# Altium integrated library WCH.IntLib: 139 symbols (part 1 of 3)
Pins are listed as number, name and electrical type; pins without a type are passive.

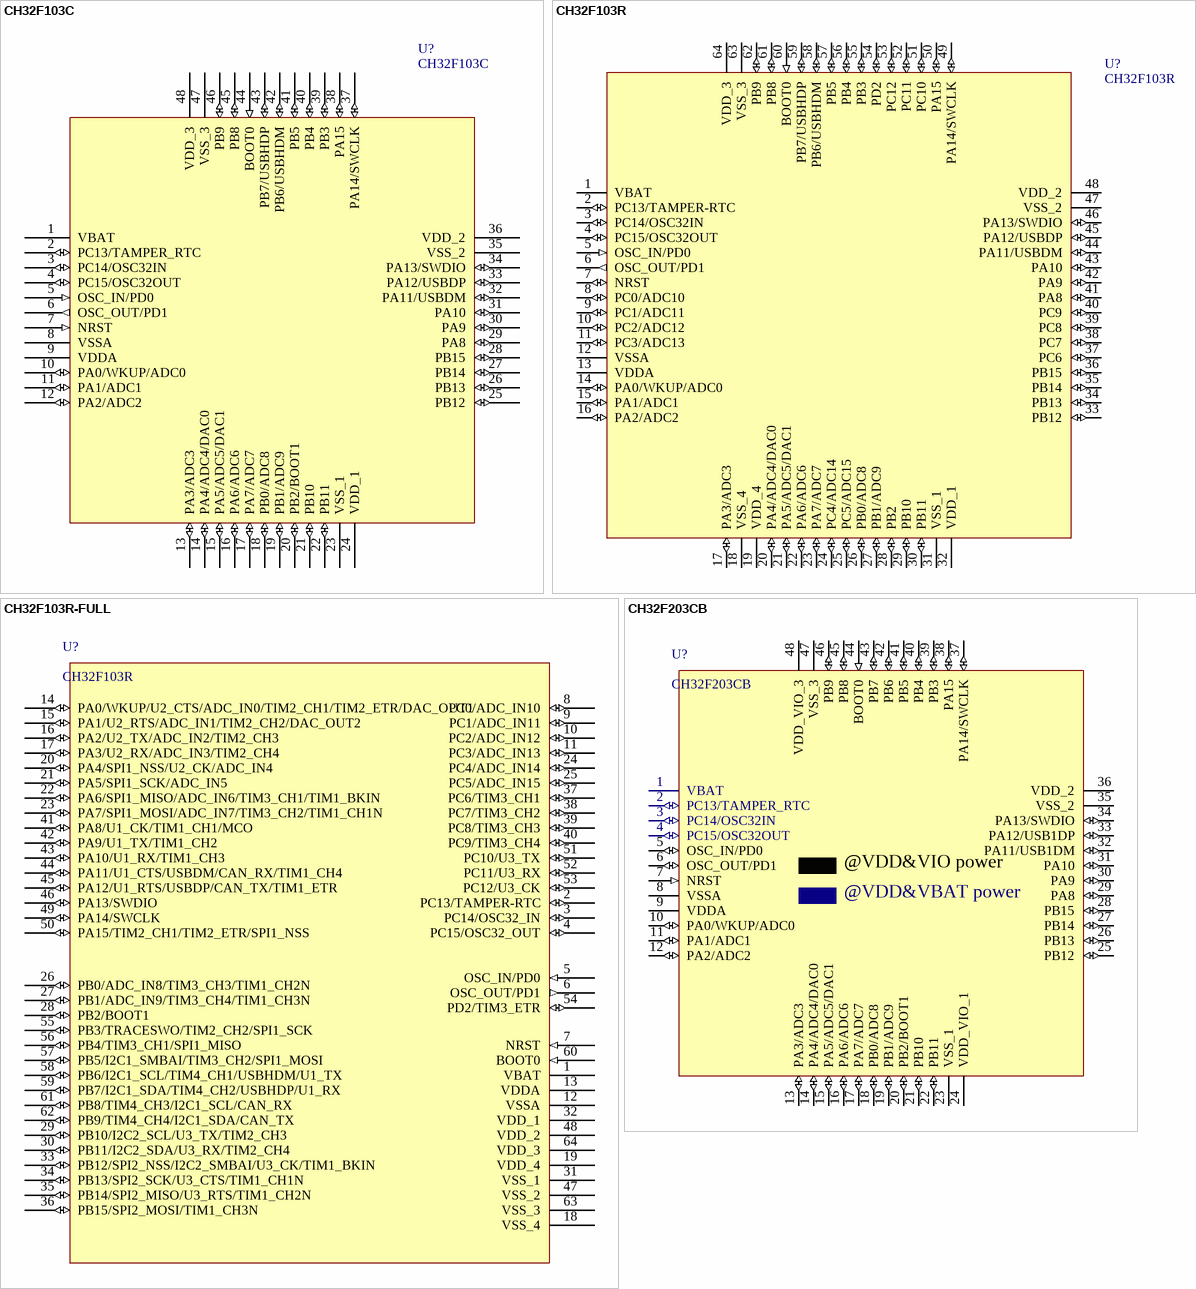
[diagram p0: symbols CH32F103C to CH32F203CB]

## CH32F103C
designator U?
ARM M3 MCU with USB device & USB host & ADC & 12bit DAC & Touch Key & CAN; CPU内核: Cortex-M3; CPU最大主频: 72MHz; I/O数量: 37; 制造商: WCH(南京沁恒); 子类别: Cortex通用; 存储器类型: Flash; 存储容量: 32/64KB; 封装: LQFP48/QFN48X7; 工作电压: 3.3V/5.0V; 类别: 32位通用
footprint LQFP48
footprint QFN48_7X7 (Footprint not found)
pins: 1 VBAT (power), 2 PC13/TAMPER_RTC (io), 3 PC14/OSC32IN (io), 4 PC15/OSC32OUT (io), 5 OSC_IN/PD0 (in), 6 OSC_OUT/PD1 (out), 7 NRST (in), 8 VSSA (power), 9 VDDA (power), 10 PA0/WKUP/ADC0 (io), 11 PA1/ADC1 (io), 12 PA2/ADC2 (io), 13 PA3/ADC3 (io), 14 PA4/ADC4/DAC0 (io), 15 PA5/ADC5/DAC1 (io), 16 PA6/ADC6 (io), 17 PA7/ADC7 (io), 18 PB0/ADC8 (io), 19 PB1/ADC9 (io), 20 PB2/BOOT1 (io), 21 PB10 (io), 22 PB11 (io), 23 VSS_1 (power), 24 VDD_1 (power), 25 PB12 (io), 26 PB13 (io), 27 PB14 (io), 28 PB15 (io), 29 PA8 (io), 30 PA9 (io), 31 PA10 (io), 32 PA11/USBDM (io), 33 PA12/USBDP (io), 34 PA13/SWDIO (io), 35 VSS_2 (power), 36 VDD_2 (power), 37 PA14/SWCLK (io), 38 PA15 (io), 39 PB3 (io), 40 PB4 (io), 41 PB5 (io), 42 PB6/USBHDM (io), 43 PB7/USBHDP (io), 44 BOOT0 (in), 45 PB8 (io), 46 PB9 (io), 47 VSS_3 (power), 48 VDD_3 (power)

## CH32F103R
designator U?
ARM M3 MCU with USB device & USB host & ADC & 12bit DAC & Touch Key & CAN; CPU内核: Cortex-M3; CPU最大主频: 72MHz; I/O数量: 51; 制造商: WCH(南京沁恒); 子类别: Cortex通用; 存储器类型: Flash; 存储容量: 64KB; 封装: LQFP64M; 工作电压: 3.3V/5.0V; 类别: 32位通用
footprint LQFP64M_10X10
pins: 1 VBAT (power), 2 PC13/TAMPER-RTC (io), 3 PC14/OSC32IN (io), 4 PC15/OSC32OUT (io), 5 OSC_IN/PD0 (in), 6 OSC_OUT/PD1 (out), 7 NRST (io), 8 PC0/ADC10 (io), 9 PC1/ADC11 (io), 10 PC2/ADC12 (io), 11 PC3/ADC13 (io), 12 VSSA (power), 13 VDDA (power), 14 PA0/WKUP/ADC0 (io), 15 PA1/ADC1 (io), 16 PA2/ADC2 (io), 17 PA3/ADC3 (io), 18 VSS_4 (power), 19 VDD_4 (power), 20 PA4/ADC4/DAC0 (io), 21 PA5/ADC5/DAC1 (io), 22 PA6/ADC6 (io), 23 PA7/ADC7 (io), 24 PC4/ADC14 (io), 25 PC5/ADC15 (io), 26 PB0/ADC8 (io), 27 PB1/ADC9 (io), 28 PB2 (io), 29 PB10 (io), 30 PB11 (io), 31 VSS_1 (power), 32 VDD_1 (power), 33 PB12 (io), 34 PB13 (io), 35 PB14 (io), 36 PB15 (io), 37 PC6 (io), 38 PC7 (io), 39 PC8 (io), 40 PC9 (io), 41 PA8 (io), 42 PA9 (io), 43 PA10 (io), 44 PA11/USBDM (io), 45 PA12/USBDP (io), 46 PA13/SWDIO (io), 47 VSS_2 (power), 48 VDD_2 (power), 49 PA14/SWCLK (io), 50 PA15 (io), 51 PC10 (io), 52 PC11 (io), 53 PC12 (io), 54 PD2 (io), 55 PB3 (io), 56 PB4 (io), 57 PB5 (io), 58 PB6/USBHDM (io), 59 PB7/USBHDP (io), 60 BOOT0 (in), 61 PB8 (io), 62 PB9 (io), 63 VSS_3 (power), 64 VDD_3 (power)

## CH32F103R-FULL
designator U?, comment CH32F103R
ARM M3 MCU with USB device & USB host & ADC & 12bit DAC & Touch Key & CAN; CPU内核: Cortex-M3; CPU最大主频: 72MHz; I/O数量: 51; 制造商: WCH(南京沁恒); 子类别: Cortex通用; 存储器类型: Flash; 存储容量: 64KB; 封装: LQFP64M; 工作电压: 3.3V/5.0V; 类别: 32位通用
footprint LQFP64M_10X10 (Footprint not found)
pins: 1 VBAT (power), 2 PC13/TAMPER-RTC (io), 3 PC14/OSC32_IN (io), 4 PC15/OSC32_OUT (io), 5 OSC_IN/PD0 (in), 6 OSC_OUT/PD1 (out), 7 NRST (in), 8 PC0/ADC_IN10 (io), 9 PC1/ADC_IN11 (io), 10 PC2/ADC_IN12 (io), 11 PC3/ADC_IN13 (io), 12 VSSA (power), 13 VDDA (power), 14 PA0/WKUP/U2_CTS/ADC_IN0/TIM2_CH1/TIM2_ETR/DAC_OUT1 (io), 15 PA1/U2_RTS/ADC_IN1/TIM2_CH2/DAC_OUT2 (io), 16 PA2/U2_TX/ADC_IN2/TIM2_CH3 (io), 17 PA3/U2_RX/ADC_IN3/TIM2_CH4 (io), 18 VSS_4 (power), 19 VDD_4 (power), 20 PA4/SPI1_NSS/U2_CK/ADC_IN4 (io), 21 PA5/SPI1_SCK/ADC_IN5 (io), 22 PA6/SPI1_MISO/ADC_IN6/TIM3_CH1/TIM1_BKIN (io), 23 PA7/SPI1_MOSI/ADC_IN7/TIM3_CH2/TIM1_CH1N (io), 24 PC4/ADC_IN14 (io), 25 PC5/ADC_IN15 (io), 26 PB0/ADC_IN8/TIM3_CH3/TIM1_CH2N (io), 27 PB1/ADC_IN9/TIM3_CH4/TIM1_CH3N (io), 28 PB2/BOOT1 (io), 29 PB10/I2C2_SCL/U3_TX/TIM2_CH3 (io), 30 PB11/I2C2_SDA/U3_RX/TIM2_CH4 (io), 31 VSS_1 (power), 32 VDD_1 (power), 33 PB12/SPI2_NSS/I2C2_SMBAI/U3_CK/TIM1_BKIN (io), 34 PB13/SPI2_SCK/U3_CTS/TIM1_CH1N  (io), 35 PB14/SPI2_MISO/U3_RTS/TIM1_CH2N (io), 36 PB15/SPI2_MOSI/TIM1_CH3N (io), 37 PC6/TIM3_CH1 (io), 38 PC7/TIM3_CH2 (io), 39 PC8/TIM3_CH3 (io), 40 PC9/TIM3_CH4 (io), 41 PA8/U1_CK/TIM1_CH1/MCO (io), 42 PA9/U1_TX/TIM1_CH2 (io), 43 PA10/U1_RX/TIM1_CH3 (io), 44 PA11/U1_CTS/USBDM/CAN_RX/TIM1_CH4 (io), 45 PA12/U1_RTS/USBDP/CAN_TX/TIM1_ETR (io), 46 PA13/SWDIO (io), 47 VSS_2 (power), 48 VDD_2 (power), 49 PA14/SWCLK (io), 50 PA15/TIM2_CH1/TIM2_ETR/SPI1_NSS (io), 51 PC10/U3_TX (io), 52 PC11/U3_RX (io), 53 PC12/U3_CK (io), 54 PD2/TIM3_ETR (io), 55 PB3/TRACESWO/TIM2_CH2/SPI1_SCK (io), 56 PB4/TIM3_CH1/SPI1_MISO (io), 57 PB5/I2C1_SMBAI/TIM3_CH2/SPI1_MOSI (io), 58 PB6/I2C1_SCL/TIM4_CH1/USBHDM/U1_TX (io), 59 PB7/I2C1_SDA/TIM4_CH2/USBHDP/U1_RX (io), 60 BOOT0 (in), 61 PB8/TIM4_CH3/I2C1_SCL/CAN_RX (io), 62 PB9/TIM4_CH4/I2C1_SDA/CAN_TX (io), 63 VSS_3 (power), 64 VDD_3 (power)

## CH32F203CB
designator U?
ARM M3 HD-MCU, 144MHz, 8*UART, 10*Timer, 4*OPA; CPU内核: Cortex-M3; I/O数量: 37; 制造商: WCH(南京沁恒); 子类别: Cortex通用; 存储器类型: Flash; 存储容量: 128KB; 封装: LQFP48; 工作电压: 2.5V/3.3V; 类别: 32位通用; CPU最大主频: 144MHz
footprint LQFP48
pins: 1 VBAT (power), 2 PC13/TAMPER_RTC (io), 3 PC14/OSC32IN (io), 4 PC15/OSC32OUT (io), 5 OSC_IN/PD0 (io), 6 OSC_OUT/PD1 (io), 7 NRST (in), 8 VSSA (power), 9 VDDA (power), 10 PA0/WKUP/ADC0 (io), 11 PA1/ADC1 (io), 12 PA2/ADC2 (io), 13 PA3/ADC3 (io), 14 PA4/ADC4/DAC0 (io), 15 PA5/ADC5/DAC1 (io), 16 PA6/ADC6 (io), 17 PA7/ADC7 (io), 18 PB0/ADC8 (io), 19 PB1/ADC9 (io), 20 PB2/BOOT1 (io), 21 PB10 (io), 22 PB11 (io), 23 VSS_1 (power), 24 VDD_VIO_1 (power), 25 PB12 (io), 26 PB13 (io), 27 PB14 (io), 28 PB15 (io), 29 PA8 (io), 30 PA9 (io), 31 PA10 (io), 32 PA11/USB1DM (io), 33 PA12/USB1DP (io), 34 PA13/SWDIO (io), 35 VSS_2 (power), 36 VDD_2 (power), 37 PA14/SWCLK (io), 38 PA15 (io), 39 PB3 (io), 40 PB4 (io), 41 PB5 (io), 42 PB6 (io), 43 PB7 (io), 44 BOOT0 (in), 45 PB8 (io), 46 PB9 (io), 47 VSS_3 (power), 48 VDD_VIO_3 (power)
text: @VDD&VIO power; @VDD&VBAT power

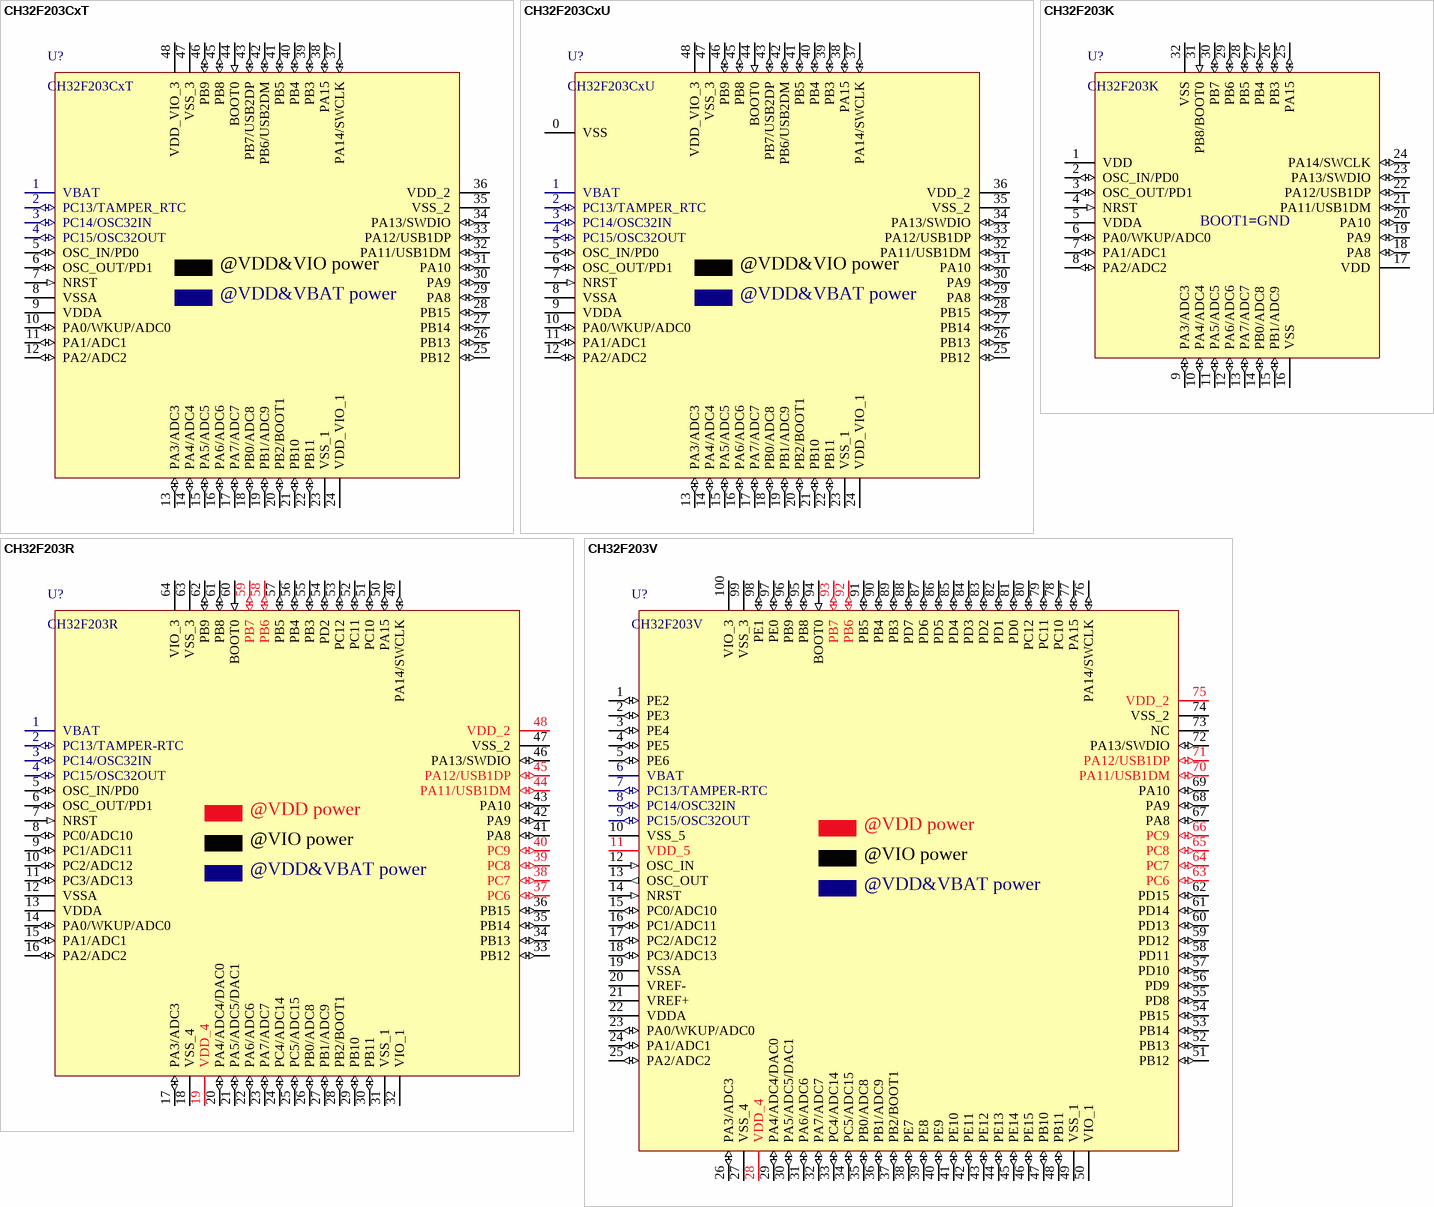
[diagram p1: symbols CH32F203CxT to CH32F203V]

## CH32F203CxT
designator U?
ARM M3 LMD-MCU, 144MHz, 2*USB FS, CAN; CPU内核: Cortex-M3; I/O数量: 37; 制造商: WCH(南京沁恒); 子类别: Cortex通用; 存储器类型: Flash; 存储容量: 32KB/64KB; 封装: LQFP48; 工作电压: 2.5V/3.3V; 类别: 32位通用; CPU最大主频: 144MHz
footprint LQFP48
pins: 1 VBAT (power), 2 PC13/TAMPER_RTC (io), 3 PC14/OSC32IN (io), 4 PC15/OSC32OUT (io), 5 OSC_IN/PD0 (io), 6 OSC_OUT/PD1 (io), 7 NRST (in), 8 VSSA (power), 9 VDDA (power), 10 PA0/WKUP/ADC0 (io), 11 PA1/ADC1 (io), 12 PA2/ADC2 (io), 13 PA3/ADC3 (io), 14 PA4/ADC4 (io), 15 PA5/ADC5 (io), 16 PA6/ADC6 (io), 17 PA7/ADC7 (io), 18 PB0/ADC8 (io), 19 PB1/ADC9 (io), 20 PB2/BOOT1 (io), 21 PB10 (io), 22 PB11 (io), 23 VSS_1 (power), 24 VDD_VIO_1 (power), 25 PB12 (io), 26 PB13 (io), 27 PB14 (io), 28 PB15 (io), 29 PA8 (io), 30 PA9 (io), 31 PA10 (io), 32 PA11/USB1DM (io), 33 PA12/USB1DP (io), 34 PA13/SWDIO (io), 35 VSS_2 (power), 36 VDD_2 (power), 37 PA14/SWCLK (io), 38 PA15 (io), 39 PB3 (io), 40 PB4 (io), 41 PB5 (io), 42 PB6/USB2DM (io), 43 PB7/USB2DP (io), 44 BOOT0 (in), 45 PB8 (io), 46 PB9 (io), 47 VSS_3 (power), 48 VDD_VIO_3 (power)
text: @VDD&VIO power; @VDD&VBAT power

## CH32F203CxU
designator U?
ARM M3 LMD-MCU, 144MHz, 2*USB FS, CAN; CPU内核: Cortex-M3; I/O数量: 37; 制造商: WCH(南京沁恒); 子类别: Cortex通用; 存储器类型: Flash; 存储容量: 64KB; 封装: LQFP48X7; 工作电压: 2.5V/3.3V; 类别: 32位通用; CPU最大主频: 144MHz
footprint QFN48_7X7 (Footprint not found)
pins: 0 VSS (power), 1 VBAT (power), 2 PC13/TAMPER_RTC (io), 3 PC14/OSC32IN (io), 4 PC15/OSC32OUT (io), 5 OSC_IN/PD0 (io), 6 OSC_OUT/PD1 (io), 7 NRST (in), 8 VSSA (power), 9 VDDA (power), 10 PA0/WKUP/ADC0 (io), 11 PA1/ADC1 (io), 12 PA2/ADC2 (io), 13 PA3/ADC3 (io), 14 PA4/ADC4 (io), 15 PA5/ADC5 (io), 16 PA6/ADC6 (io), 17 PA7/ADC7 (io), 18 PB0/ADC8 (io), 19 PB1/ADC9 (io), 20 PB2/BOOT1 (io), 21 PB10 (io), 22 PB11 (io), 23 VSS_1 (power), 24 VDD_VIO_1 (power), 25 PB12 (io), 26 PB13 (io), 27 PB14 (io), 28 PB15 (io), 29 PA8 (io), 30 PA9 (io), 31 PA10 (io), 32 PA11/USB1DM (io), 33 PA12/USB1DP (io), 34 PA13/SWDIO (io), 35 VSS_2 (power), 36 VDD_2 (power), 37 PA14/SWCLK (io), 38 PA15 (io), 39 PB3 (io), 40 PB4 (io), 41 PB5 (io), 42 PB6/USB2DM (io), 43 PB7/USB2DP (io), 44 BOOT0 (in), 45 PB8 (io), 46 PB9 (io), 47 VSS_3 (power), 48 VDD_VIO_3 (power)
text: @VDD&VIO power; @VDD&VBAT power

## CH32F203K
designator U?
ARM M3 LMD-MCU, 144MHz, USB FS, CAN; CPU内核: Cortex-M3; I/O数量: 26; 制造商: WCH(南京沁恒); 子类别: Cortex通用; 存储器类型: Flash; 存储容量: 64KB; 封装: LQFP32; 工作电压: 2.5V/3.3V; 类别: 32位通用; CPU最大主频: 144MHz
footprint LQFP32
pins: 1 VDD (power), 2 OSC_IN/PD0 (io), 3 OSC_OUT/PD1 (io), 4 NRST (in), 5 VDDA (power), 6 PA0/WKUP/ADC0 (io), 7 PA1/ADC1 (io), 8 PA2/ADC2 (io), 9 PA3/ADC3 (io), 10 PA4/ADC4 (io), 11 PA5/ADC5 (io), 12 PA6/ADC6 (io), 13 PA7/ADC7 (io), 14 PB0/ADC8 (io), 15 PB1/ADC9 (io), 16 VSS (power), 17 VDD (power), 18 PA8 (io), 19 PA9 (io), 20 PA10 (io), 21 PA11/USB1DM (io), 22 PA12/USB1DP (io), 23 PA13/SWDIO (io), 24 PA14/SWCLK (io), 25 PA15 (io), 26 PB3 (io), 27 PB4 (io), 28 PB5 (io), 29 PB6 (io), 30 PB7 (io), 31 PB8/BOOT0 (in), 32 VSS (power)
text: BOOT1=GND

## CH32F203R
designator U?
ARM M3 HD-MCU, 144MHz, 8*UART, 10*Timer, 4*OPA; CPU内核: Cortex-M3; I/O数量: 51; 制造商: WCH(南京沁恒); 子类别: Cortex通用; 存储器类型: Flash; 存储容量: 128KB/256KB; 封装: LQFP64M; 工作电压: 2.5V/3.3V; 类别: 32位通用; CPU最大主频: 144MHz
footprint LQFP64M_10X10
pins: 1 VBAT (power), 2 PC13/TAMPER-RTC (io), 3 PC14/OSC32IN (io), 4 PC15/OSC32OUT (io), 5 OSC_IN/PD0 (io), 6 OSC_OUT/PD1 (io), 7 NRST (in), 8 PC0/ADC10 (io), 9 PC1/ADC11 (io), 10 PC2/ADC12 (io), 11 PC3/ADC13 (io), 12 VSSA (power), 13 VDDA (power), 14 PA0/WKUP/ADC0 (io), 15 PA1/ADC1 (io), 16 PA2/ADC2 (io), 17 PA3/ADC3 (io), 18 VSS_4 (power), 19 VDD_4 (power), 20 PA4/ADC4/DAC0 (io), 21 PA5/ADC5/DAC1 (io), 22 PA6/ADC6 (io), 23 PA7/ADC7 (io), 24 PC4/ADC14 (io), 25 PC5/ADC15 (io), 26 PB0/ADC8 (io), 27 PB1/ADC9 (io), 28 PB2/BOOT1 (io), 29 PB10 (io), 30 PB11 (io), 31 VSS_1 (power), 32 VIO_1 (power), 33 PB12 (io), 34 PB13 (io), 35 PB14 (io), 36 PB15 (io), 37 PC6 (io), 38 PC7 (io), 39 PC8 (io), 40 PC9 (io), 41 PA8 (io), 42 PA9 (io), 43 PA10 (io), 44 PA11/USB1DM (io), 45 PA12/USB1DP (io), 46 PA13/SWDIO (io), 47 VSS_2 (power), 48 VDD_2 (power), 49 PA14/SWCLK (io), 50 PA15 (io), 51 PC10 (io), 52 PC11 (io), 53 PC12 (io), 54 PD2 (io), 55 PB3 (io), 56 PB4 (io), 57 PB5 (io), 58 PB6 (io), 59 PB7 (io), 60 BOOT0 (in), 61 PB8 (io), 62 PB9 (io), 63 VSS_3 (power), 64 VIO_3 (power)
text: @VDD power; @VIO power; @VDD&VBAT power

## CH32F203V
designator U?
ARM M3 HD-MCU, 144MHz, 8*UART, 10*Timer, 4*OPA; CPU内核: Cortex-M3; I/O数量: 80; 制造商: WCH(南京沁恒); 子类别: Cortex通用; 存储器类型: Flash; 存储容量: 256KB; 封装: LQFP100; 工作电压: 2.5V/3.3V; 类别: 32位通用; CPU最大主频: 144MHz
footprint LQFP100
pins: 1 PE2 (io), 2 PE3 (io), 3 PE4 (io), 4 PE5 (io), 5 PE6 (io), 6 VBAT (power), 7 PC13/TAMPER-RTC (io), 8 PC14/OSC32IN (io), 9 PC15/OSC32OUT (io), 10 VSS_5 (power), 11 VDD_5 (power), 12 OSC_IN (in), 13 OSC_OUT (out), 14 NRST (in), 15 PC0/ADC10 (io), 16 PC1/ADC11 (io), 17 PC2/ADC12 (io), 18 PC3/ADC13 (io), 19 VSSA (power), 20 VREF- (power), 21 VREF+ (power), 22 VDDA (power), 23 PA0/WKUP/ADC0 (io), 24 PA1/ADC1 (io), 25 PA2/ADC2 (io), 26 PA3/ADC3 (io), 27 VSS_4 (power), 28 VDD_4 (power), 29 PA4/ADC4/DAC0 (io), 30 PA5/ADC5/DAC1 (io), 31 PA6/ADC6 (io), 32 PA7/ADC7 (io), 33 PC4/ADC14 (io), 34 PC5/ADC15 (io), 35 PB0/ADC8 (io), 36 PB1/ADC9 (io), 37 PB2/BOOT1 (io), 38 PE7 (io), 39 PE8 (io), 40 PE9 (io), 41 PE10 (io), 42 PE11 (io), 43 PE12 (io), 44 PE13 (io), 45 PE14 (io), 46 PE15 (io), 47 PB10 (io), 48 PB11 (io), 49 VSS_1 (power), 50 VIO_1 (power), 51 PB12 (io), 52 PB13 (io), 53 PB14 (io), 54 PB15 (io), 55 PD8 (io), 56 PD9 (io), 57 PD10 (io), 58 PD11 (io), 59 PD12 (io), 60 PD13 (io), 61 PD14 (io), 62 PD15 (io), 63 PC6 (io), 64 PC7 (io), 65 PC8 (io), 66 PC9 (io), 67 PA8 (io), 68 PA9 (io), 69 PA10 (io), 70 PA11/USB1DM (io), 71 PA12/USB1DP (io), 72 PA13/SWDIO (io), 73 NC (hiz), 74 VSS_2 (power), 75 VDD_2 (power), 76 PA14/SWCLK (io), 77 PA15 (io), 78 PC10 (io), 79 PC11 (io), 80 PC12 (io), 81 PD0 (io), 82 PD1 (io), 83 PD2 (io), 84 PD3 (io), 85 PD4 (io), 86 PD5 (io), 87 PD6 (io), 88 PD7 (io), 89 PB3 (io), 90 PB4 (io), 91 PB5 (io), 92 PB6 (io), 93 PB7 (io), 94 BOOT0 (in), 95 PB8 (io), 96 PB9 (io), 97 PE0 (io), 98 PE1 (io), 99 VSS_3 (power), 100 VIO_3 (power)
text: @VDD power; @VIO power; @VDD&VBAT power

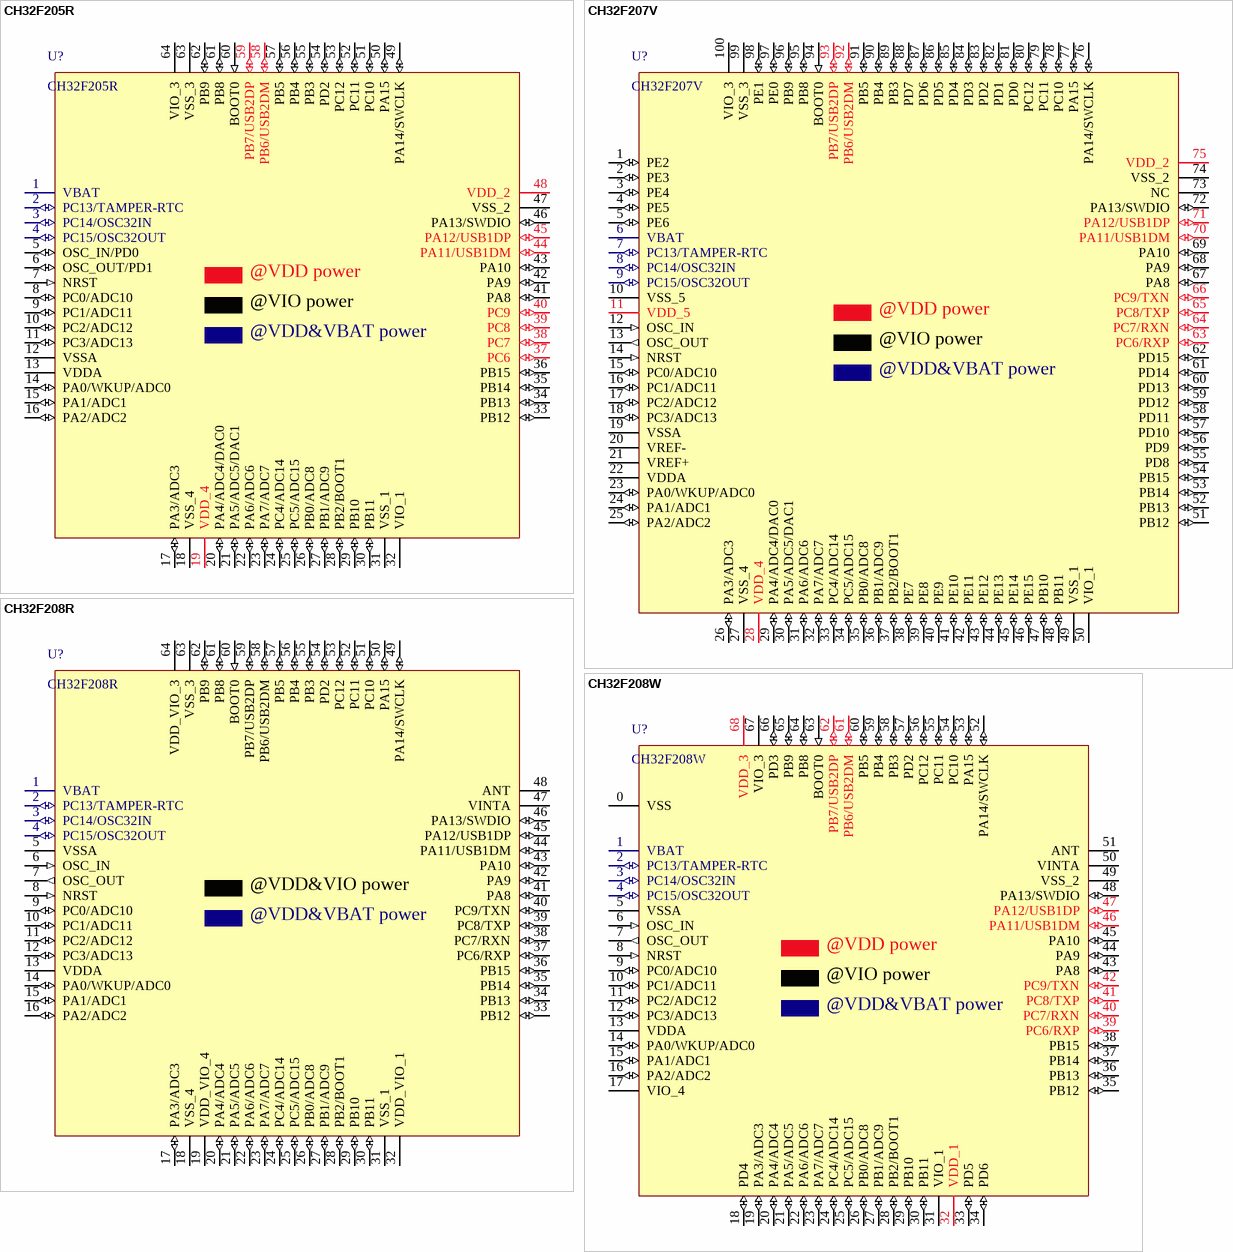
[diagram p2: symbols CH32F205R to CH32F208W]

## CH32F205R
designator U?
ARM M3 HD-MCU, 144MHz, USB_480M, USB OTG, 2*CAN, 4*OPA; CPU内核: Cortex-M3; I/O数量: 51; 制造商: WCH(南京沁恒); 子类别: Cortex通用; 存储器类型: Flash; 存储容量: 128KB; 封装: LQFP64M; 工作电压: 2.5V/3.3V; 类别: 32位通用; CPU最大主频: 144MHz
footprint LQFP64M_10X10
pins: 1 VBAT (power), 2 PC13/TAMPER-RTC (io), 3 PC14/OSC32IN (io), 4 PC15/OSC32OUT (io), 5 OSC_IN/PD0 (io), 6 OSC_OUT/PD1 (io), 7 NRST (in), 8 PC0/ADC10 (io), 9 PC1/ADC11 (io), 10 PC2/ADC12 (io), 11 PC3/ADC13 (io), 12 VSSA (power), 13 VDDA (power), 14 PA0/WKUP/ADC0 (io), 15 PA1/ADC1 (io), 16 PA2/ADC2 (io), 17 PA3/ADC3 (io), 18 VSS_4 (power), 19 VDD_4 (power), 20 PA4/ADC4/DAC0 (io), 21 PA5/ADC5/DAC1 (io), 22 PA6/ADC6 (io), 23 PA7/ADC7 (io), 24 PC4/ADC14 (io), 25 PC5/ADC15 (io), 26 PB0/ADC8 (io), 27 PB1/ADC9 (io), 28 PB2/BOOT1 (io), 29 PB10 (io), 30 PB11 (io), 31 VSS_1 (power), 32 VIO_1 (power), 33 PB12 (io), 34 PB13 (io), 35 PB14 (io), 36 PB15 (io), 37 PC6 (io), 38 PC7 (io), 39 PC8 (io), 40 PC9 (io), 41 PA8 (io), 42 PA9 (io), 43 PA10 (io), 44 PA11/USB1DM (io), 45 PA12/USB1DP (io), 46 PA13/SWDIO (io), 47 VSS_2 (power), 48 VDD_2 (power), 49 PA14/SWCLK (io), 50 PA15 (io), 51 PC10 (io), 52 PC11 (io), 53 PC12 (io), 54 PD2 (io), 55 PB3 (io), 56 PB4 (io), 57 PB5 (io), 58 PB6/USB2DM (io), 59 PB7/USB2DP (io), 60 BOOT0 (in), 61 PB8 (io), 62 PB9 (io), 63 VSS_3 (power), 64 VIO_3 (power)
text: @VDD power; @VIO power; @VDD&VBAT power

## CH32F207V
designator U?
ARM M3 HD-MCU, 144MHz, USB_480M, USB OTG, 1000M Ethernet MAC, 2*CAN; CPU内核: Cortex-M3; I/O数量: 80; 制造商: WCH(南京沁恒); 子类别: Cortex以太网; 存储器类型: Flash; 存储容量: 256KB; 封装: LQFP100; 工作电压: 2.5V/3.3V; 类别: 以太网芯片; CPU最大主频: 144MHz
footprint LQFP100
pins: 1 PE2 (io), 2 PE3 (io), 3 PE4 (io), 4 PE5 (io), 5 PE6 (io), 6 VBAT (power), 7 PC13/TAMPER-RTC (io), 8 PC14/OSC32IN (io), 9 PC15/OSC32OUT (io), 10 VSS_5 (power), 11 VDD_5 (power), 12 OSC_IN (in), 13 OSC_OUT (out), 14 NRST (in), 15 PC0/ADC10 (io), 16 PC1/ADC11 (io), 17 PC2/ADC12 (io), 18 PC3/ADC13 (io), 19 VSSA (power), 20 VREF- (power), 21 VREF+ (power), 22 VDDA (power), 23 PA0/WKUP/ADC0 (io), 24 PA1/ADC1 (io), 25 PA2/ADC2 (io), 26 PA3/ADC3 (io), 27 VSS_4 (power), 28 VDD_4 (power), 29 PA4/ADC4/DAC0 (io), 30 PA5/ADC5/DAC1 (io), 31 PA6/ADC6 (io), 32 PA7/ADC7 (io), 33 PC4/ADC14 (io), 34 PC5/ADC15 (io), 35 PB0/ADC8 (io), 36 PB1/ADC9 (io), 37 PB2/BOOT1 (io), 38 PE7 (io), 39 PE8 (io), 40 PE9 (io), 41 PE10 (io), 42 PE11 (io), 43 PE12 (io), 44 PE13 (io), 45 PE14 (io), 46 PE15 (io), 47 PB10 (io), 48 PB11 (io), 49 VSS_1 (power), 50 VIO_1 (power), 51 PB12 (io), 52 PB13 (io), 53 PB14 (io), 54 PB15 (io), 55 PD8 (io), 56 PD9 (io), 57 PD10 (io), 58 PD11 (io), 59 PD12 (io), 60 PD13 (io), 61 PD14 (io), 62 PD15 (io), 63 PC6/RXP (io), 64 PC7/RXN (io), 65 PC8/TXP (io), 66 PC9/TXN (io), 67 PA8 (io), 68 PA9 (io), 69 PA10 (io), 70 PA11/USB1DM (io), 71 PA12/USB1DP (io), 72 PA13/SWDIO (io), 73 NC (hiz), 74 VSS_2 (power), 75 VDD_2 (power), 76 PA14/SWCLK (io), 77 PA15 (io), 78 PC10 (io), 79 PC11 (io), 80 PC12 (io), 81 PD0 (io), 82 PD1 (io), 83 PD2 (io), 84 PD3 (io), 85 PD4 (io), 86 PD5 (io), 87 PD6 (io), 88 PD7 (io), 89 PB3 (io), 90 PB4 (io), 91 PB5 (io), 92 PB6/USB2DM (io), 93 PB7/USB2DP (io), 94 BOOT0 (in), 95 PB8 (io), 96 PB9 (io), 97 PE0 (io), 98 PE1 (io), 99 VSS_3 (power), 100 VIO_3 (power)
text: @VDD power; @VIO power; @VDD&VBAT power

## CH32F208R
designator U?
ARM M3 BLE5.3 MCU, 10M Ethernet, 2*USB, CAN; CPU内核: Cortex-M3; CPU最大主频: 144MHz; I/O数量: 49; 制造商: WCH(南京沁恒); 子类别: Cortex互联; 存储器类型: Flash; 存储容量: 128KB; 封装: LQFP64M; 工作电压: 2.5V/3.3V; 类别: 互联芯片
footprint LQFP64M_10X10
pins: 1 VBAT (power), 2 PC13/TAMPER-RTC (io), 3 PC14/OSC32IN (io), 4 PC15/OSC32OUT (io), 5 VSSA (power), 6 OSC_IN (in), 7 OSC_OUT (out), 8 NRST (in), 9 PC0/ADC10 (io), 10 PC1/ADC11 (io), 11 PC2/ADC12 (io), 12 PC3/ADC13 (io), 13 VDDA (power), 14 PA0/WKUP/ADC0 (io), 15 PA1/ADC1 (io), 16 PA2/ADC2 (io), 17 PA3/ADC3 (io), 18 VSS_4 (power), 19 VDD_VIO_4 (power), 20 PA4/ADC4 (io), 21 PA5/ADC5 (io), 22 PA6/ADC6 (io), 23 PA7/ADC7 (io), 24 PC4/ADC14 (io), 25 PC5/ADC15 (io), 26 PB0/ADC8 (io), 27 PB1/ADC9 (io), 28 PB2/BOOT1 (io), 29 PB10 (io), 30 PB11 (io), 31 VSS_1 (power), 32 VDD_VIO_1 (power), 33 PB12 (io), 34 PB13 (io), 35 PB14 (io), 36 PB15 (io), 37 PC6/RXP (io), 38 PC7/RXN (io), 39 PC8/TXP (io), 40 PC9/TXN (io), 41 PA8 (io), 42 PA9 (io), 43 PA10 (io), 44 PA11/USB1DM (io), 45 PA12/USB1DP (io), 46 PA13/SWDIO (io), 47 VINTA (power), 48 ANT (power), 49 PA14/SWCLK (io), 50 PA15 (io), 51 PC10 (io), 52 PC11 (io), 53 PC12 (io), 54 PD2 (io), 55 PB3 (io), 56 PB4 (io), 57 PB5 (io), 58 PB6/USB2DM (io), 59 PB7/USB2DP (io), 60 BOOT0 (in), 61 PB8 (io), 62 PB9 (io), 63 VSS_3 (power), 64 VDD_VIO_3 (power)
text: @VDD&VIO power; @VDD&VBAT power

## CH32F208W
designator U?
ARM M3 BLE5.3 MCU, 10M Ethernet, 2*USB, CAN; CPU内核: Cortex-M3; CPU最大主频: 144MHz; I/O数量: 53; 制造商: WCH(南京沁恒); 子类别: Cortex互联; 存储器类型: Flash; 存储容量: 128KB; 封装: QFN68; 工作电压: 2.5V/3.3V; 类别: 互联芯片
footprint QFN68_8X8
pins: 0 VSS (power), 1 VBAT (power), 2 PC13/TAMPER-RTC (io), 3 PC14/OSC32IN (io), 4 PC15/OSC32OUT (io), 5 VSSA (power), 6 OSC_IN (in), 7 OSC_OUT (out), 8 NRST (in), 9 PC0/ADC10 (io), 10 PC1/ADC11 (io), 11 PC2/ADC12 (io), 12 PC3/ADC13 (io), 13 VDDA (power), 14 PA0/WKUP/ADC0 (io), 15 PA1/ADC1 (io), 16 PA2/ADC2 (io), 17 VIO_4 (power), 18 PD4 (io), 19 PA3/ADC3 (io), 20 PA4/ADC4 (io), 21 PA5/ADC5 (io), 22 PA6/ADC6 (io), 23 PA7/ADC7 (io), 24 PC4/ADC14 (io), 25 PC5/ADC15 (io), 26 PB0/ADC8 (io), 27 PB1/ADC9 (io), 28 PB2/BOOT1 (io), 29 PB10 (io), 30 PB11 (io), 31 VIO_1 (power), 32 VDD_1 (power), 33 PD5 (io), 34 PD6 (io), 35 PB12 (io), 36 PB13 (io), 37 PB14 (io), 38 PB15 (io), 39 PC6/RXP (io), 40 PC7/RXN (io), 41 PC8/TXP (io), 42 PC9/TXN (io), 43 PA8 (io), 44 PA9 (io), 45 PA10 (io), 46 PA11/USB1DM (io), 47 PA12/USB1DP (io), 48 PA13/SWDIO (io), 49 VSS_2 (power), 50 VINTA (power), 51 ANT (power), 52 PA14/SWCLK (io), 53 PA15 (io), 54 PC10 (io), 55 PC11 (io), 56 PC12 (io), 57 PD2 (io), 58 PB3 (io), 59 PB4 (io), 60 PB5 (io), 61 PB6/USB2DM (io), 62 PB7/USB2DP (io), 63 BOOT0 (in), 64 PB8 (io), 65 PB9 (io), 66 PD3 (io), 67 VIO_3 (power), 68 VDD_3 (power)
text: @VDD power; @VIO power; @VDD&VBAT power

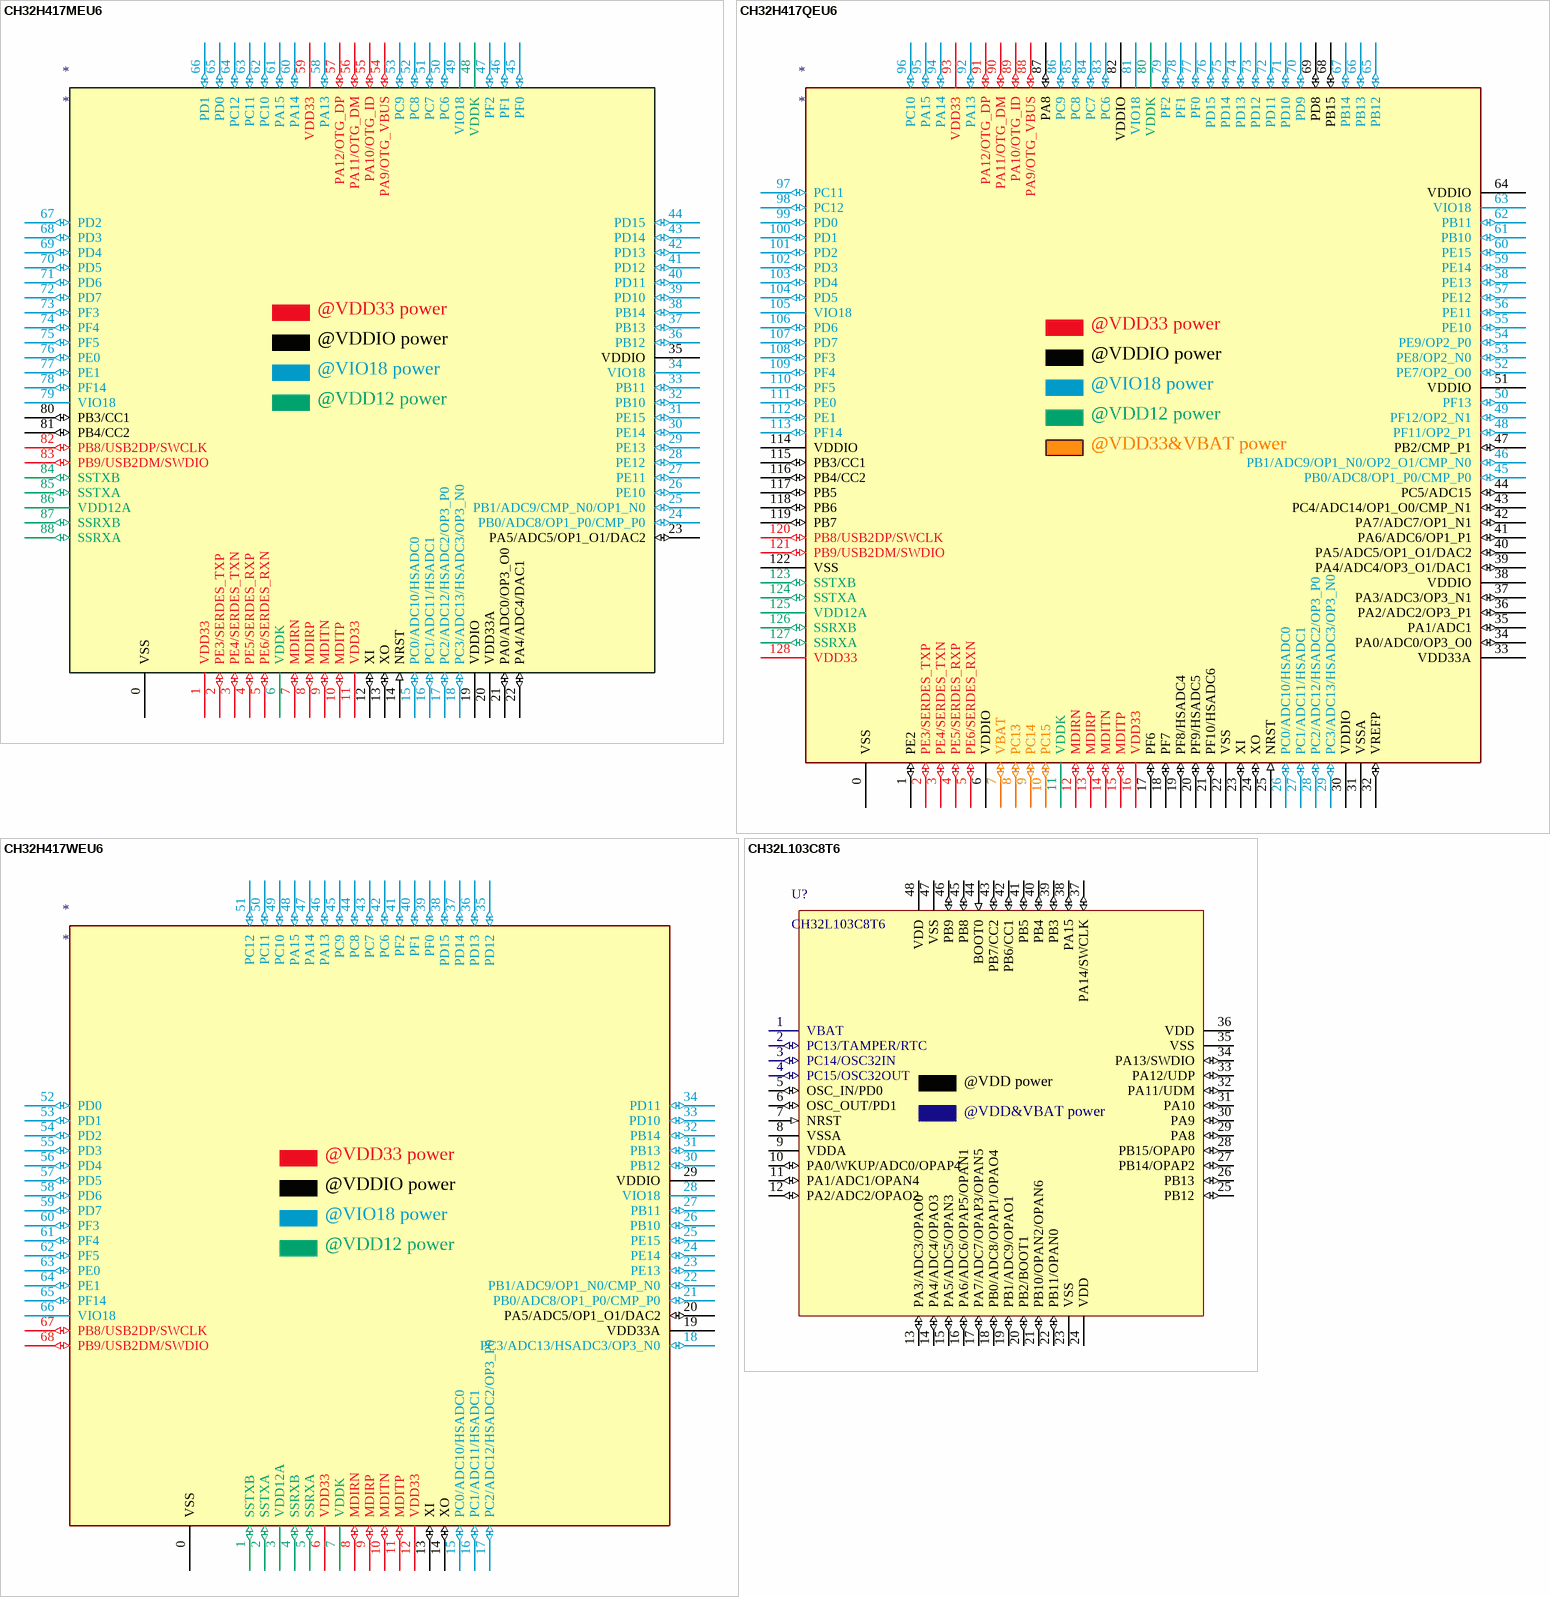
[diagram p3: symbols CH32H417MEU6 to CH32L103C8T6]

## CH32H417MEU6
designator *
RISC-V FPU HD-MCU, 400MHz, USB3.0 & PD, 100M Ethernet, DVP, SDMMC, QSPI, OPA, ADC, DAC; CPU内核: RISC-V5F,RISC-V3F; CPU最大主频: 384MHz,144MHz; I/O数量: 65; 制造商: WCH(南京沁恒); 子类别: RISC-V双核互联; 存储器类型: Flash; 存储容量: 512KB; 封装: QFN88; 工作电压: 3.3V; 类别: 互联芯片
footprint QFN88_10X10 (Footprint not found)
pins: 0 VSS (power), 1 VDD33 (power), 2 PE3/SERDES_TXP (io), 3 PE4/SERDES_TXN (io), 4 PE5/SERDES_RXP (io), 5 PE6/SERDES_RXN (io), 6 VDDK (power), 7 MDIRN (io), 8 MDIRP (io), 9 MDITN (io), 10 MDITP (io), 11 VDD33 (power), 12 XI (io), 13 XO (io), 14 NRST (in), 15 PC0/ADC10/HSADC0 (io), 16 PC1/ADC11/HSADC1 (io), 17 PC2/ADC12/HSADC2/OP3_P0 (io), 18 PC3/ADC13/HSADC3/OP3_N0 (io), 19 VDDIO (power), 20 VDD33A (power), 21 PA0/ADC0/OP3_O0 (io), 22 PA4/ADC4/DAC1 (io), 23 PA5/ADC5/OP1_O1/DAC2 (io), 24 PB0/ADC8/OP1_P0/CMP_P0 (io), 25 PB1/ADC9/CMP_N0/OP1_N0 (io), 26 PE10 (io), 27 PE11 (io), 28 PE12 (io), 29 PE13 (io), 30 PE14 (io), 31 PE15 (io), 32 PB10 (io), 33 PB11 (io), 34 VIO18 (power), 35 VDDIO (power), 36 PB12 (io), 37 PB13 (io), 38 PB14 (io), 39 PD10 (io), 40 PD11 (io), 41 PD12 (io), 42 PD13 (io), 43 PD14 (io), 44 PD15 (io), 45 PF0 (io), 46 PF1 (io), 47 PF2 (io), 48 VDDK (power), 49 VIO18 (power), 50 PC6 (io), 51 PC7 (io), 52 PC8 (io), 53 PC9 (io), 54 PA9/OTG_VBUS (io), 55 PA10/OTG_ID (io), 56 PA11/OTG_DM (io), 57 PA12/OTG_DP (io), 58 PA13 (io), 59 VDD33 (power), 60 PA14 (io), 61 PA15 (io), 62 PC10 (io), 63 PC11 (io), 64 PC12 (io), 65 PD0 (io), 66 PD1 (io), 67 PD2 (io), 68 PD3 (io), 69 PD4 (io), 70 PD5 (io), 71 PD6 (io), 72 PD7 (io), 73 PF3 (io), 74 PF4 (io), 75 PF5 (io), 76 PE0 (io), 77 PE1 (io), 78 PF14 (io), 79 VIO18 (power), 80 PB3/CC1 (io), 81 PB4/CC2 (io), 82 PB8/USB2DP/SWCLK (io), 83 PB9/USB2DM/SWDIO (io), 84 SSTXB (io), 85 SSTXA (io), 86 VDD12A (power), 87 SSRXB (io), 88 SSRXA (io)
text: @VDD33 power; @VDDIO power; @VIO18 power; @VDD12 power

## CH32H417QEU6
designator *
RISC-V FPU HD-MCU, 400MHz, USB3.0 & PD, 100M Ethernet, DVP, SDMMC, QSPI, OPA, ADC, DAC; CPU内核: RISC-V5F,RISC-V3F; CPU最大主频: 384MHz,144MHz; I/O数量: 95; 制造商: WCH(南京沁恒); 子类别: RISC-V双核互联; 存储器类型: Flash; 存储容量: 512KB; 封装: QFN128; 工作电压: 3.3V; 类别: 互联芯片
footprint QFN128_12.3X12.3 (Footprint not found)
pins: 0 VSS (power), 1 PE2 (io), 2 PE3/SERDES_TXP (io), 3 PE4/SERDES_TXN (io), 4 PE5/SERDES_RXP (io), 5 PE6/SERDES_RXN (io), 6 VDDIO (power), 7 VBAT (io), 8 PC13 (io), 9 PC14 (io), 10 PC15 (io), 11 VDDK (power), 12 MDIRN (io), 13 MDIRP (io), 14 MDITN (io), 15 MDITP (io), 16 VDD33 (power), 17 PF6 (io), 18 PF7 (io), 19 PF8/HSADC4 (io), 20 PF9/HSADC5 (io), 21 PF10/HSADC6 (io), 22 VSS (power), 23 XI (io), 24 XO (io), 25 NRST (in), 26 PC0/ADC10/HSADC0 (io), 27 PC1/ADC11/HSADC1 (io), 28 PC2/ADC12/HSADC2/OP3_P0 (io), 29 PC3/ADC13/HSADC3/OP3_N0 (io), 30 VDDIO (power), 31 VSSA (power), 32 VREFP (io), 33 VDD33A (power), 34 PA0/ADC0/OP3_O0 (io), 35 PA1/ADC1 (io), 36 PA2/ADC2/OP3_P1 (io), 37 PA3/ADC3/OP3_N1 (io), 38 VDDIO (power), 39 PA4/ADC4/OP3_O1/DAC1 (io), 40 PA5/ADC5/OP1_O1/DAC2 (io), 41 PA6/ADC6/OP1_P1 (io), 42 PA7/ADC7/OP1_N1 (io), 43 PC4/ADC14/OP1_O0/CMP_N1 (io), 44 PC5/ADC15 (io), 45 PB0/ADC8/OP1_P0/CMP_P0 (io), 46 PB1/ADC9/OP1_N0/OP2_O1/CMP_N0 (io), 47 PB2/CMP_P1 (io), 48 PF11/OP2_P1 (io), 49 PF12/OP2_N1 (io), 50 PF13 (io), 51 VDDIO (power), 52 PE7/OP2_O0 (io), 53 PE8/OP2_N0 (io), 54 PE9/OP2_P0 (io), 55 PE10 (io), 56 PE11 (io), 57 PE12 (io), 58 PE13 (io), 59 PE14 (io), 60 PE15 (io), 61 PB10 (io), 62 PB11 (io), 63 VIO18 (power), 64 VDDIO (power), 65 PB12 (io), 66 PB13 (io), 67 PB14 (io), 68 PB15 (io), 69 PD8 (io), 70 PD9 (io), 71 PD10 (io), 72 PD11 (io), 73 PD12 (io), 74 PD13 (io), 75 PD14 (io), 76 PD15 (io), 77 PF0 (io), 78 PF1 (io), 79 PF2 (io), 80 VDDK (power), 81 VIO18 (power), 82 VDDIO (power), 83 PC6 (io), 84 PC7 (io), 85 PC8 (io), 86 PC9 (io), 87 PA8 (io), 88 PA9/OTG_VBUS (io), 89 PA10/OTG_ID (io), 90 PA11/OTG_DM (io), 91 PA12/OTG_DP (io), 92 PA13 (io), 93 VDD33 (power), 94 PA14 (io), 95 PA15 (io), 96 PC10 (io), 97 PC11 (io), 98 PC12 (io), 99 PD0 (io), 100 PD1 (io), 101 PD2 (io), 102 PD3 (io), 103 PD4 (io), 104 PD5 (io), 105 VIO18 (power), 106 PD6 (io), 107 PD7 (io), 108 PF3 (io), 109 PF4 (io), 110 PF5 (io), 111 PE0 (io), 112 PE1 (io), 113 PF14 (io), 114 VDDIO (power), 115 PB3/CC1 (io), 116 PB4/CC2 (io), 117 PB5 (io), 118 PB6 (io), 119 PB7 (io), 120 PB8/USB2DP/SWCLK (io), 121 PB9/USB2DM/SWDIO (io), 122 VSS (power), 123 SSTXB (io), 124 SSTXA (io), 125 VDD12A (power), 126 SSRXB (io), 127 SSRXA (io), 128 VDD33 (power)
text: @VDD33 power; @VDDIO power; @VIO18 power; @VDD12 power; @VDD33&VBAT power

## CH32H417WEU6
designator *
RISC-V FPU HD-MCU, 400MHz, USB3.0, 100M Ethernet, DVP, SDMMC, QSPI, OPA, ADC, DAC; CPU内核: RISC-V5F,RISC-V3F; CPU最大主频: 384MHz,144MHz; I/O数量: 50; 制造商: WCH(南京沁恒); 子类别: RISC-V双核互联; 存储器类型: Flash; 存储容量: 512KB; 封装: QFN68; 工作电压: 3.3V; 类别: 互联芯片
footprint QFN68_8X8 (Footprint not found)
pins: 0 VSS (power), 1 SSTXB (io), 2 SSTXA (io), 3 VDD12A (power), 4 SSRXB (io), 5 SSRXA (io), 6 VDD33 (power), 7 VDDK (power), 8 MDIRN (io), 9 MDIRP (io), 10 MDITN (io), 11 MDITP (io), 12 VDD33 (power), 13 XI (io), 14 XO (io), 15 PC0/ADC10/HSADC0 (io), 16 PC1/ADC11/HSADC1 (io), 17 PC2/ADC12/HSADC2/OP3_P0 (io), 18 PC3/ADC13/HSADC3/OP3_N0 (io), 19 VDD33A (power), 20 PA5/ADC5/OP1_O1/DAC2 (io), 21 PB0/ADC8/OP1_P0/CMP_P0 (io), 22 PB1/ADC9/OP1_N0/CMP_N0 (io), 23 PE13 (io), 24 PE14 (io), 25 PE15 (io), 26 PB10 (io), 27 PB11 (io), 28 VIO18 (power), 29 VDDIO (power), 30 PB12 (io), 31 PB13 (io), 32 PB14 (io), 33 PD10 (io), 34 PD11 (io), 35 PD12 (io), 36 PD13 (io), 37 PD14 (io), 38 PD15 (io), 39 PF0 (io), 40 PF1 (io), 41 PF2 (io), 42 PC6 (io), 43 PC7 (io), 44 PC8 (io), 45 PC9 (io), 46 PA13 (io), 47 PA14 (io), 48 PA15 (io), 49 PC10 (io), 50 PC11 (io), 51 PC12 (io), 52 PD0 (io), 53 PD1 (io), 54 PD2 (io), 55 PD3 (io), 56 PD4 (io), 57 PD5 (io), 58 PD6 (io), 59 PD7 (io), 60 PF3 (io), 61 PF4 (io), 62 PF5 (io), 63 PE0 (io), 64 PE1 (io), 65 PF14 (io), 66 VIO18 (power), 67 PB8/USB2DP/SWCLK (io), 68 PB9/USB2DM/SWDIO (io)
text: @VDD33 power; @VDDIO power; @VIO18 power; @VDD12 power

## CH32L103C8T6
designator U?
RISC-V LMD-MCU, 96MHz, USB, Type-C/PD, CAN, OPA, lower power; CPU内核: RISC-V4C; I/O数量: 37; 制造商: WCH(南京沁恒); 子类别: RISC-V低功耗通用; 存储器类型: Flash; 存储容量: 64KB; 封装: LQFP48; 工作电压: 3.3V; 类别: 低功耗芯片; CPU最大主频: 96MHz
footprint LQFP48
pins: 1 VBAT (power), 2 PC13/TAMPER/RTC (io), 3 PC14/OSC32IN (io), 4 PC15/OSC32OUT (io), 5 OSC_IN/PD0 (io), 6 OSC_OUT/PD1 (io), 7 NRST (in), 8 VSSA (power), 9 VDDA (power), 10 PA0/WKUP/ADC0/OPAP4 (io), 11 PA1/ADC1/OPAN4 (io), 12 PA2/ADC2/OPAO2 (io), 13 PA3/ADC3/OPAO0 (io), 14 PA4/ADC4/OPAO3 (io), 15 PA5/ADC5/OPAN3 (io), 16 PA6/ADC6/OPAP5/OPAN1 (io), 17 PA7/ADC7/OPAP3/OPAN5 (io), 18 PB0/ADC8/OPAP1/OPAO4 (io), 19 PB1/ADC9/OPAO1 (io), 20 PB2/BOOT1 (io), 21 PB10/OPAN2/OPAN6 (io), 22 PB11/OPAN0 (io), 23 VSS (power), 24 VDD (power), 25 PB12 (io), 26 PB13 (io), 27 PB14/OPAP2 (io), 28 PB15/OPAP0 (io), 29 PA8 (io), 30 PA9 (io), 31 PA10 (io), 32 PA11/UDM (io), 33 PA12/UDP (io), 34 PA13/SWDIO (io), 35 VSS (power), 36 VDD (power), 37 PA14/SWCLK (io), 38 PA15 (io), 39 PB3 (io), 40 PB4 (io), 41 PB5 (io), 42 PB6/CC1 (io), 43 PB7/CC2 (io), 44 BOOT0 (in), 45 PB8 (io), 46 PB9 (io), 47 VSS (power), 48 VDD (power)
text: @VDD power; @VDD&VBAT power

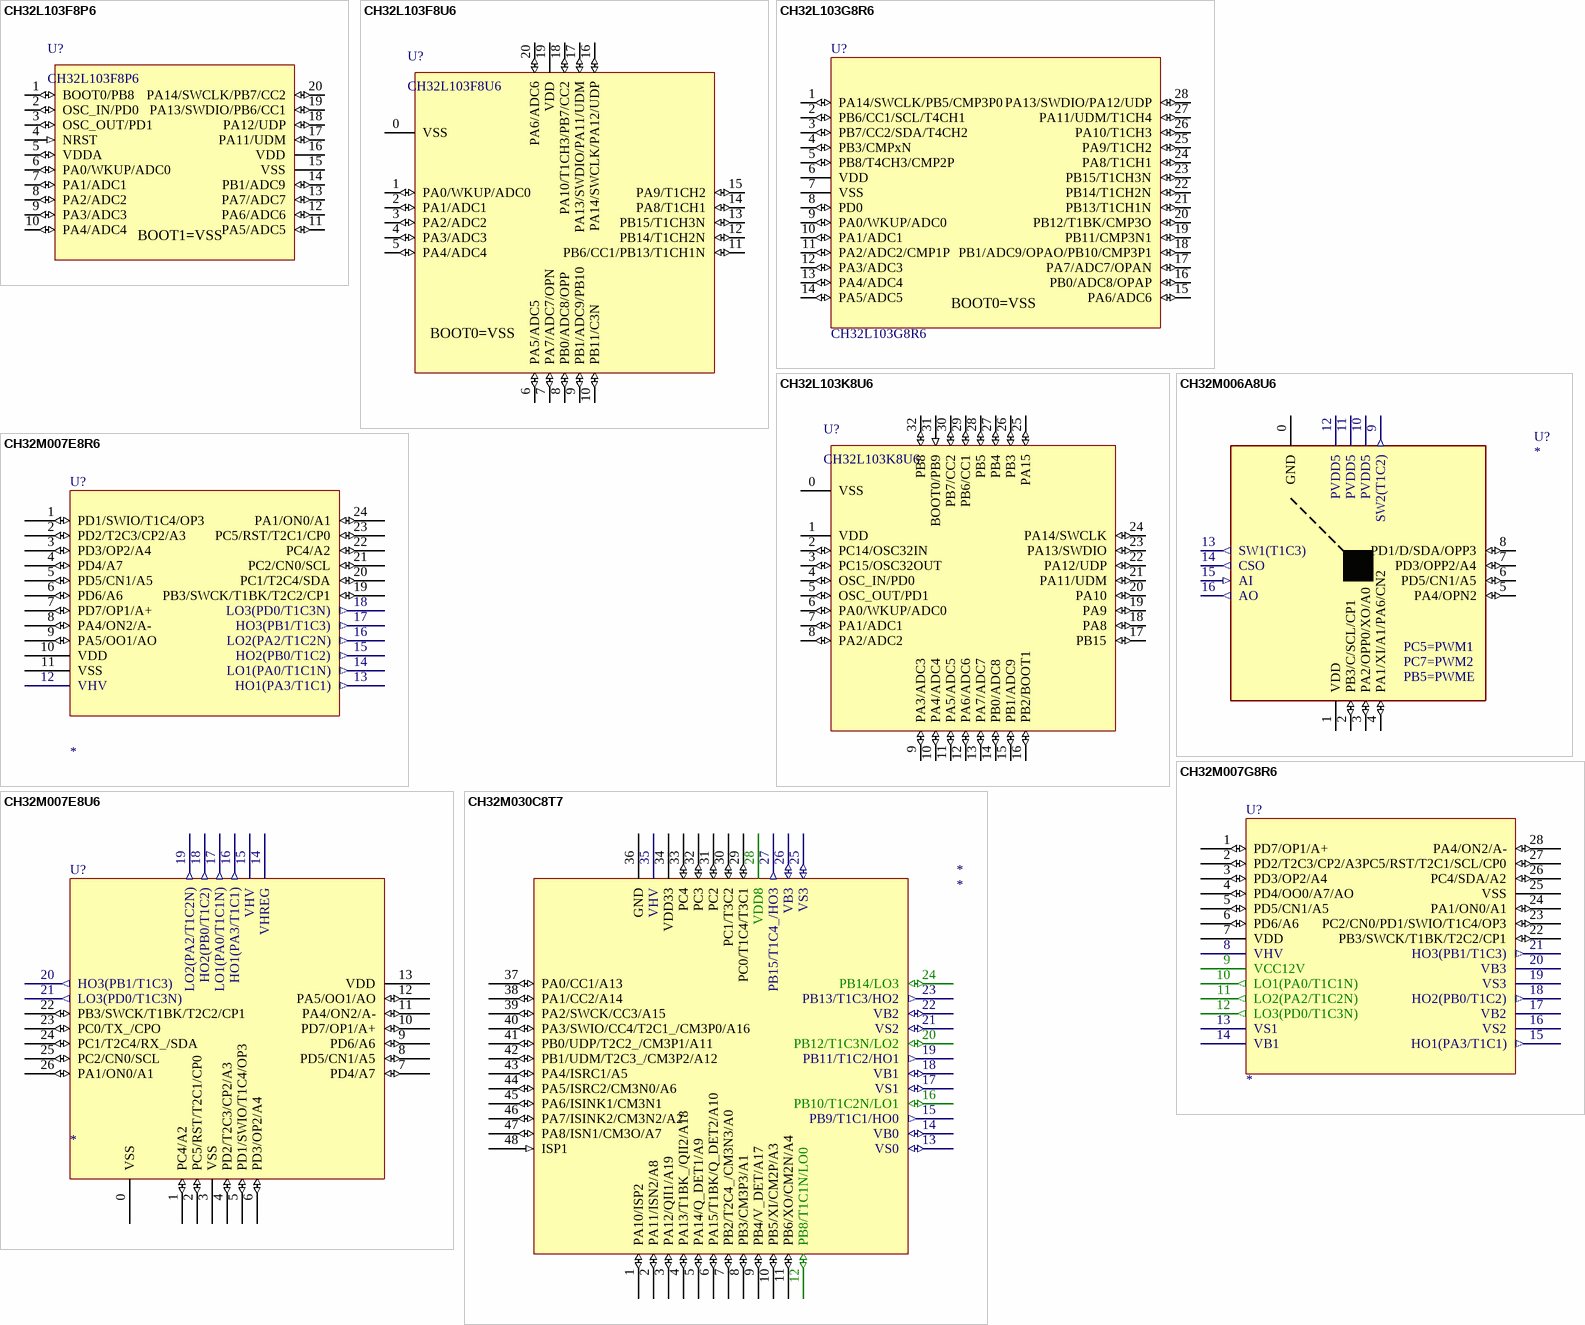
[diagram p4: symbols CH32L103F8P6 to CH32M030C8T7]

## CH32L103F8P6
designator U?
RISC-V LMD-MCU, 96MHz, USB, Type-C/PD, CAN, OPA, lower power; CPU内核: RISC-V4C; I/O数量: 16; 制造商: WCH(南京沁恒); 子类别: RISC-V低功耗通用; 存储器类型: Flash; 存储容量: 64KB; 封装: TSSOP20; 工作电压: 3.3V; 类别: 低功耗芯片; CPU最大主频: 96MHz
footprint TSSOP20 (Footprint not found)
pins: 1 BOOT0/PB8 (io), 2 OSC_IN/PD0 (io), 3 OSC_OUT/PD1 (io), 4 NRST (in), 5 VDDA (io), 6 PA0/WKUP/ADC0 (io), 7 PA1/ADC1 (io), 8 PA2/ADC2 (io), 9 PA3/ADC3 (io), 10 PA4/ADC4 (io), 11 PA5/ADC5 (io), 12 PA6/ADC6 (io), 13 PA7/ADC7 (io), 14 PB1/ADC9 (io), 15 VSS (power), 16 VDD (power), 17 PA11/UDM (io), 18 PA12/UDP (io), 19 PA13/SWDIO/PB6/CC1 (io), 20 PA14/SWCLK/PB7/CC2 (io)
text: BOOT1=VSS

## CH32L103F8U6
designator U?
RISC-V LMD-MCU, 96MHz, USB, Type-C/PD-5K1, CAN, OPA, lower power; CPU内核: RISC-V4C; I/O数量: 19; 制造商: WCH(南京沁恒); 子类别: RISC-V低功耗通用; 存储器类型: Flash; 存储容量: 64KB; 封装: QFN20; 工作电压: 3.3V; 类别: 低功耗芯片; CPU最大主频: 96MHz
footprint QFN20_3X3
pins: 0 VSS (power), 1 PA0/WKUP/ADC0 (io), 2 PA1/ADC1 (io), 3 PA2/ADC2 (io), 4 PA3/ADC3 (io), 5 PA4/ADC4 (io), 6 PA5/ADC5 (io), 7 PA7/ADC7/OPN (io), 8 PB0/ADC8/OPP (io), 9 PB1/ADC9/PB10 (io), 10 PB11/C3N (io), 11 PB6/CC1/PB13/T1CH1N (io), 12 PB14/T1CH2N (io), 13 PB15/T1CH3N (io), 14 PA8/T1CH1 (io), 15 PA9/T1CH2 (io), 16 PA14/SWCLK/PA12/UDP (io), 17 PA13/SWDIO/PA11/UDM (io), 18 PA10/T1CH3/PB7/CC2 (io), 19 VDD (power), 20 PA6/ADC6 (io)
text: BOOT0=VSS

## CH32L103G8R6
designator U?
RISC-V LMD-MCU, 96MHz, USB, Type-C, CAN, OPA, lower power; CPU内核: RISC-V4C; I/O数量: 26; 制造商: WCH(南京沁恒); 子类别: RISC-V低功耗通用; 存储器类型: Flash; 存储容量: 64KB; 封装: QSOP28; 工作电压: 3.3V; 类别: 低功耗芯片; CPU最大主频: 96MHz
footprint QSOP28
pins: 1 PA14/SWCLK/PB5/CMP3P0 (io), 2 PB6/CC1/SCL/T4CH1 (io), 3 PB7/CC2/SDA/T4CH2 (io), 4 PB3/CMPxN (io), 5 PB8/T4CH3/CMP2P (io), 6 VDD (power), 7 VSS (power), 8 PD0 (io), 9 PA0/WKUP/ADC0 (io), 10 PA1/ADC1 (io), 11 PA2/ADC2/CMP1P (io), 12 PA3/ADC3 (io), 13 PA4/ADC4 (io), 14 PA5/ADC5 (io), 15 PA6/ADC6 (io), 16 PB0/ADC8/OPAP (io), 17 PA7/ADC7/OPAN (io), 18 PB1/ADC9/OPAO/PB10/CMP3P1 (io), 19 PB11/CMP3N1 (io), 20 PB12/T1BK/CMP3O (io), 21 PB13/T1CH1N (io), 22 PB14/T1CH2N (io), 23 PB15/T1CH3N (io), 24 PA8/T1CH1 (io), 25 PA9/T1CH2 (io), 26 PA10/T1CH3 (io), 27 PA11/UDM/T1CH4 (io), 28 PA13/SWDIO/PA12/UDP (io)
text: BOOT0=VSS

## CH32L103K8U6
designator U?
RISC-V LMD-MCU, 96MHz, USB, Type-C/PD-5K1, CAN, OPA, lower power; CPU内核: RISC-V4C; I/O数量: 31; 制造商: WCH(南京沁恒); 子类别: RISC-V低功耗通用; 存储器类型: Flash; 存储容量: 64KB; 封装: QFN32; 工作电压: 3.3V; 类别: 低功耗芯片; CPU最大主频: 96MHz
footprint QFN32_4X4
pins: 0 VSS (power), 1 VDD (power), 2 PC14/OSC32IN (io), 3 PC15/OSC32OUT (io), 4 OSC_IN/PD0 (io), 5 OSC_OUT/PD1 (io), 6 PA0/WKUP/ADC0 (io), 7 PA1/ADC1 (io), 8 PA2/ADC2 (io), 9 PA3/ADC3 (io), 10 PA4/ADC4 (io), 11 PA5/ADC5 (io), 12 PA6/ADC6 (io), 13 PA7/ADC7 (io), 14 PB0/ADC8 (io), 15 PB1/ADC9 (io), 16 PB2/BOOT1 (io), 17 PB15 (io), 18 PA8 (io), 19 PA9 (io), 20 PA10 (io), 21 PA11/UDM (io), 22 PA12/UDP (io), 23 PA13/SWDIO (io), 24 PA14/SWCLK (io), 25 PA15 (io), 26 PB3 (io), 27 PB4 (io), 28 PB5 (io), 29 PB6/CC1 (io), 30 PB7/CC2 (io), 31 BOOT0/PB9 (in), 32 PB8 (io)

## CH32M006A8U6
designator U?
RISC-V MCU, 48MHz, OPA/CMP/UART/I2C, 5V Full-Bridge Power Stage; CPU内核: RISC-V2C; I/O数量: 7; 制造商: WCH(南京沁恒); 子类别: RISC-V宽压; 存储器类型: Flash; 存储容量: 65KB; 封装: QFN16; 工作电压: 3-5V; 类别: 32位通用; CPU最大主频: 48MHz
footprint QFN16_3X3 (Footprint not found)
pins: 0 GND (power), 1 VDD (power), 2 PB3/C/SCL/CP1 (io), 3 PA2/OPP0/XO/A0 (io), 4 PA1/XI/A1/PA6/CN2 (io), 5 PA4/OPN2 (io), 6 PD5/CN1/A5 (io), 7 PD3/OPP2/A4 (io), 8 PD1/D/SDA/OPP3 (io), 9 SW2(T1C2) (out), 10 PVDD5 (power), 11 PVDD5 (power), 12 PVDD5 (power), 13 SW1(T1C3) (out), 14 CSO (out), 15 AI (in), 16 AO (out)
text: PC5=PWM1; PC7=PWM2; PB5=PWME

## CH32M007E8R6
designator U?
RISC-V MCU, 48MHz, OPA/CMP/UART/I2C, 24V P/NMOS gate driver for motor; CPU内核: RISC-V2C; I/O数量: 15; 制造商: WCH(南京沁恒); 子类别: RISC-V电机驱动; 存储器类型: Flash; 存储容量: 62KB; 封装: QSOP24; 工作电压: 6-24V; 类别: 电机驱动芯片; CPU最大主频: 48MHz
footprint QSOP24 (Footprint not found)
pins: 1 PD1/SWIO/T1C4/OP3 (io), 2 PD2/T2C3/CP2/A3 (io), 3 PD3/OP2/A4 (io), 4 PD4/A7 (io), 5 PD5/CN1/A5 (io), 6 PD6/A6 (io), 7 PD7/OP1/A+ (io), 8 PA4/ON2/A- (io), 9 PA5/OO1/AO (io), 10 VDD (power), 11 VSS (power), 12 VHV (power), 13 HO1(PA3/T1C1) (out), 14 LO1(PA0/T1C1N) (out), 15 HO2(PB0/T1C2) (out), 16 LO2(PA2/T1C2N) (out), 17 HO3(PB1/T1C3) (out), 18 LO3(PD0/T1C3N) (out), 19 PB3/SWCK/T1BK/T2C2/CP1 (io), 20 PC1/T2C4/SDA (io), 21 PC2/CN0/SCL (io), 22 PC4/A2 (io), 23 PC5/RST/T2C1/CP0 (io), 24 PA1/ON0/A1 (io)

## CH32M007E8U6
designator U?
RISC-V MCU, 48MHz, OPA/CMP/UART/I2C, 24V P/NMOS gate driver for motor; CPU内核: RISC-V2C; I/O数量: 16; 制造商: WCH(南京沁恒); 子类别: RISC-V电机驱动; 存储器类型: Flash; 存储容量: 62KB; 封装: QFN26C3; 工作电压: 6-24V; 类别: 电机驱动芯片; CPU最大主频: 48MHz
footprint QFN26C_3X3 (Footprint not found)
pins: 0 VSS (power), 1 PC4/A2 (io), 2 PC5/RST/T2C1/CP0 (io), 3 VSS (power), 4 PD2/T2C3/CP2/A3 (io), 5 PD1/SWIO/T1C4/OP3 (io), 6 PD3/OP2/A4 (io), 7 PD4/A7 (io), 8 PD5/CN1/A5 (io), 9 PD6/A6 (io), 10 PD7/OP1/A+ (io), 11 PA4/ON2/A- (io), 12 PA5/OO1/AO (io), 13 VDD (power), 14 VHREG (power), 15 VHV (power), 16 HO1(PA3/T1C1) (out), 17 LO1(PA0/T1C1N) (out), 18 HO2(PB0/T1C2) (out), 19 LO2(PA2/T1C2N) (out), 20 HO3(PB1/T1C3) (out), 21 LO3(PD0/T1C3N) (out), 22 PB3/SWCK/T1BK/T2C2/CP1 (io), 23 PC0/TX_/CPO (io), 24 PC1/T2C4/RX_/SDA (io), 25 PC2/CN0/SCL (io), 26 PA1/ON0/A1 (io)

## CH32M007G8R6
designator U?
RISC-V MCU, 48MHz, OPA/CMP/UART/I2C, 48V NMOS gate driver for motor; CPU内核: RISC-V2C; I/O数量: 12; 制造商: WCH(南京沁恒); 子类别: RISC-V电机驱动; 存储器类型: Flash; 存储容量: 62KB; 封装: QSOP28; 工作电压: 6-48V; 类别: 电机驱动芯片; CPU最大主频: 48MHz
footprint QSOP28
pins: 1 PD7/OP1/A+ (io), 2 PD2/T2C3/CP2/A3 (io), 3 PD3/OP2/A4 (io), 4 PD4/OO0/A7/AO (io), 5 PD5/CN1/A5 (io), 6 PD6/A6 (io), 7 VDD (power), 8 VHV (power), 9 VCC12V (power), 10 LO1(PA0/T1C1N) (out), 11 LO2(PA2/T1C2N) (out), 12 LO3(PD0/T1C3N) (out), 13 VS1 (power), 14 VB1 (power), 15 HO1(PA3/T1C1) (out), 16 VS2 (power), 17 VB2 (power), 18 HO2(PB0/T1C2) (out), 19 VS3 (power), 20 VB3 (power), 21 HO3(PB1/T1C3) (out), 22 PB3/SWCK/T1BK/T2C2/CP1 (io), 23 PC2/CN0/PD1/SWIO/T1C4/OP3 (io), 24 PA1/ON0/A1 (io), 25 VSS (power), 26 PC4/SDA/A2 (io), 27 PC5/RST/T2C1/SCL/CP0 (io), 28 PA4/ON2/A- (io)
2 alternate drawings of the same symbol

## CH32M030C8T7
designator *
RISC-V MCU, 72MHz, USB, Type-C/PD, OPA, CMP, 28V gate driver; CPU内核: RISC-V3B; I/O数量: 35; 制造商: WCH(南京沁恒); 子类别: RISC-V电机驱动; 存储器类型: Flash; 存储容量: 64KB; 封装: LQFP48; 工作电压: 3.3V/5-10V; 类别: 电机驱动芯片; CPU最大主频: 72MHz
footprint LQFP48
pins: 1 PA10/ISP2 (io), 2 PA11/ISN2/A8 (io), 3 PA12/QII1/A19 (io), 4 PA13/T1BK_/QII2/A18 (io), 5 PA14/Q_DET1/A9 (io), 6 PA15/T1BK/Q_DET2/A10 (io), 7 PB2/T2C4_/CM3N3/A0 (io), 8 PB3/CM3P3/A1 (io), 9 PB4/V_DET/A17 (io), 10 PB5/XI/CM2P/A3 (io), 11 PB6/XO/CM2N/A4 (io), 12 PB8/T1C1N/LO0 (io), 13 VS0 (io), 14 VB0 (io), 15 PB9/T1C1/HO0 (out), 16 PB10/T1C2N/LO1 (io), 17 VS1 (io), 18 VB1 (io), 19 PB11/T1C2/HO1 (out), 20 PB12/T1C3N/LO2 (io), 21 VS2 (io), 22 VB2 (io), 23 PB13/T1C3/HO2 (out), 24 PB14/LO3 (io), 25 VS3 (io), 26 VB3 (io), 27 PB15/T1C4_/HO3 (out), 28 VDD8 (power), 29 PC0/T1C4/T3C1 (io), 30 PC1/T3C2 (io), 31 PC2 (io), 32 PC3 (io), 33 PC4 (io), 34 VDD33 (power), 35 VHV (power), 36 GND (power), 37 PA0/CC1/A13 (io), 38 PA1/CC2/A14 (io), 39 PA2/SWCK/CC3/A15 (io), 40 PA3/SWIO/CC4/T2C1_/CM3P0/A16 (io), 41 PB0/UDP/T2C2_/CM3P1/A11 (io), 42 PB1/UDM/T2C3_/CM3P2/A12 (io), 43 PA4/ISRC1/A5 (io), 44 PA5/ISRC2/CM3N0/A6 (io), 45 PA6/ISINK1/CM3N1 (io), 46 PA7/ISINK2/CM3N2/A2 (io), 47 PA8/ISN1/CM3O/A7 (io), 48 ISP1 (in)

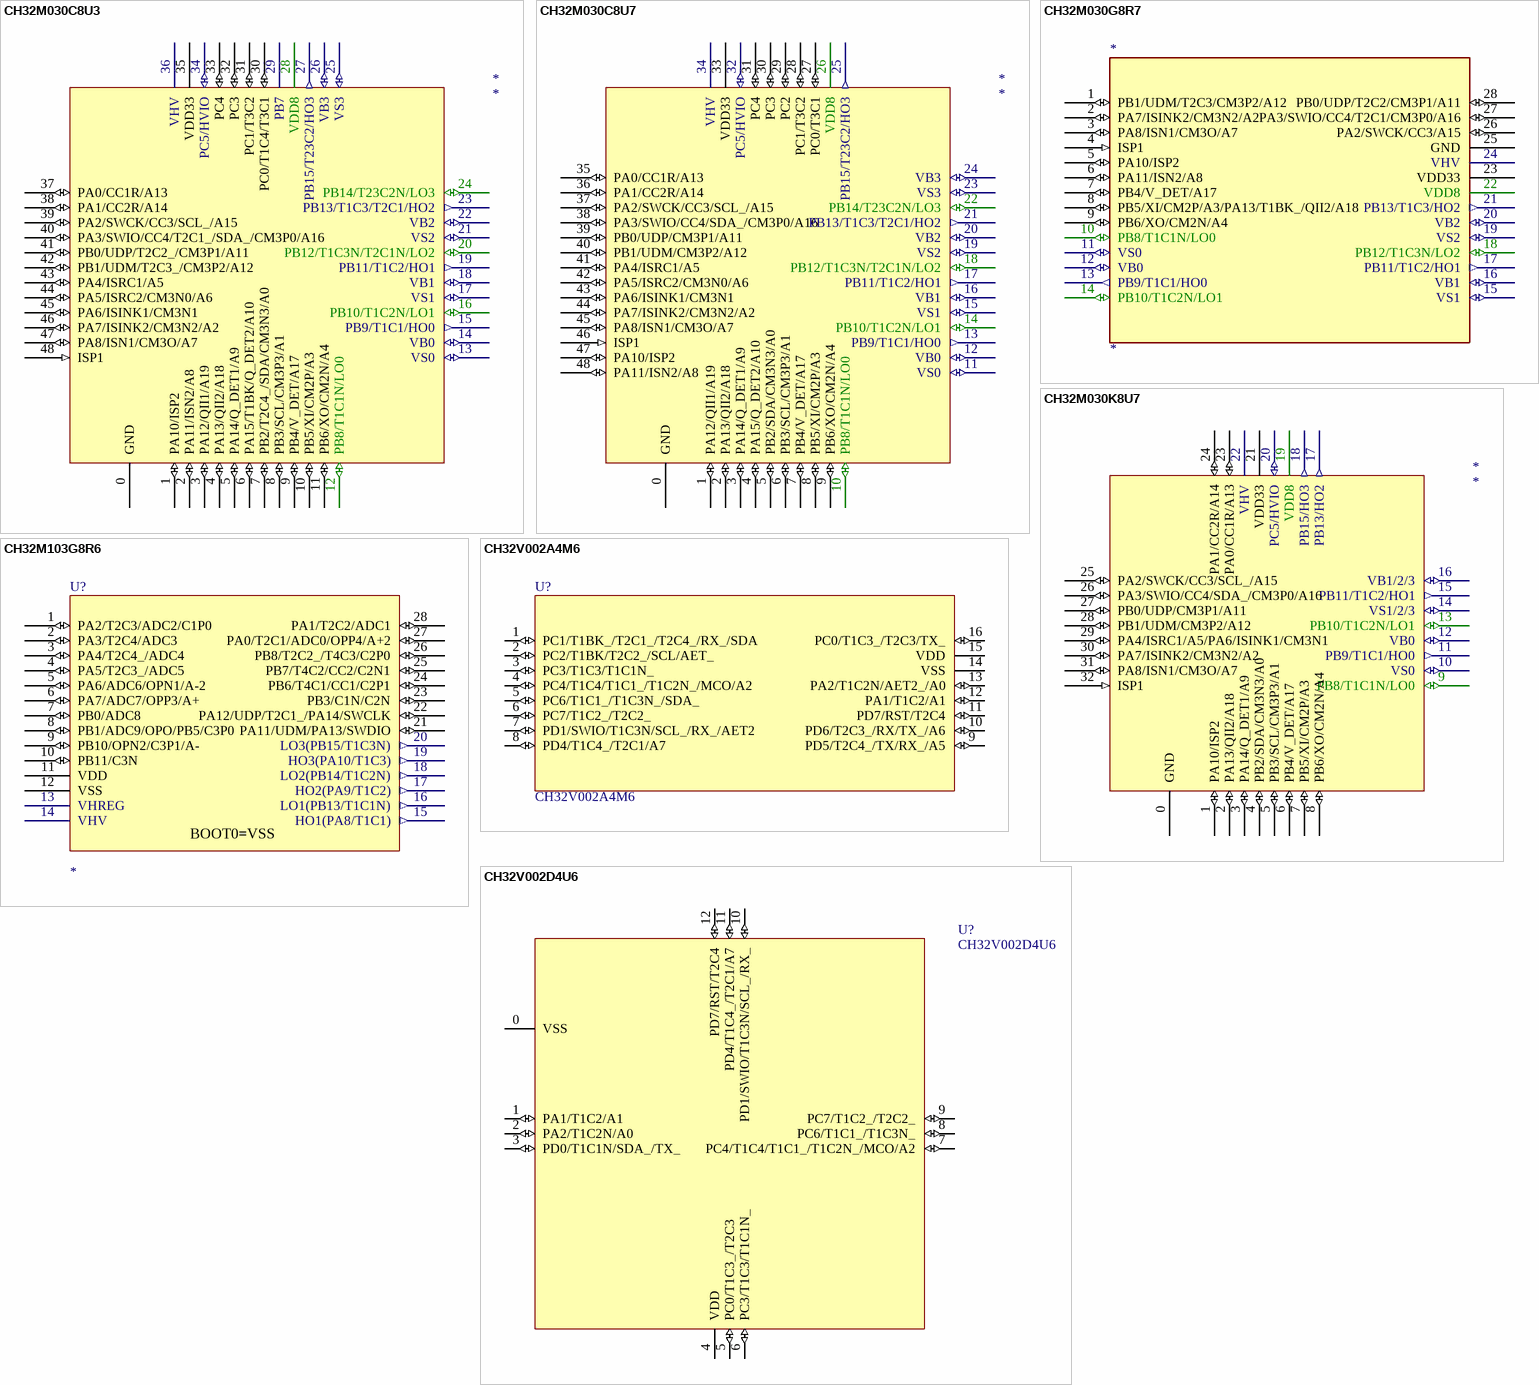
[diagram p5: symbols CH32M030C8U3 to CH32V002D4U6]

## CH32M030C8U3
designator *
RISC-V MCU, 72MHz, USB, Type-C/PD, OPA, CMP, 28V gate driver; CPU内核: RISC-V3B; I/O数量: 36; 制造商: WCH(南京沁恒); 子类别: RISC-V电机驱动; 存储器类型: Flash; 存储容量: 64KB; 封装: QFN48X7_A; 工作电压: 3.3V/5-10V; 类别: 电机驱动芯片; CPU最大主频: 72MHz
footprint QFN48_7X7 (Footprint not found)
pins: 0 GND (power), 1 PA10/ISP2 (io), 2 PA11/ISN2/A8 (io), 3 PA12/QII1/A19 (io), 4 PA13/QII2/A18 (io), 5 PA14/Q_DET1/A9 (io), 6 PA15/T1BK/Q_DET2/A10 (io), 7 PB2/T2C4_/SDA/CM3N3/A0 (io), 8 PB3/SCL/CM3P3/A1 (io), 9 PB4/V_DET/A17 (io), 10 PB5/XI/CM2P/A3 (io), 11 PB6/XO/CM2N/A4 (io), 12 PB8/T1C1N/LO0 (io), 13 VS0 (io), 14 VB0 (io), 15 PB9/T1C1/HO0 (out), 16 PB10/T1C2N/LO1 (io), 17 VS1 (io), 18 VB1 (io), 19 PB11/T1C2/HO1 (out), 20 PB12/T1C3N/T2C1N/LO2 (io), 21 VS2 (io), 22 VB2 (io), 23 PB13/T1C3/T2C1/HO2 (out), 24 PB14/T23C2N/LO3 (io), 25 VS3 (io), 26 VB3 (io), 27 PB15/T23C2/HO3 (out), 28 VDD8 (power), 29 PB7 (oc), 30 PC0/T1C4/T3C1 (io), 31 PC1/T3C2 (io), 32 PC3 (io), 33 PC4 (io), 34 PC5/HVIO (io), 35 VDD33 (power), 36 VHV (power), 37 PA0/CC1R/A13 (io), 38 PA1/CC2R/A14 (io), 39 PA2/SWCK/CC3/SCL_/A15 (io), 40 PA3/SWIO/CC4/T2C1_/SDA_/CM3P0/A16 (io), 41 PB0/UDP/T2C2_/CM3P1/A11 (io), 42 PB1/UDM/T2C3_/CM3P2/A12 (io), 43 PA4/ISRC1/A5 (io), 44 PA5/ISRC2/CM3N0/A6 (io), 45 PA6/ISINK1/CM3N1 (io), 46 PA7/ISINK2/CM3N2/A2 (io), 47 PA8/ISN1/CM3O/A7 (io), 48 ISP1 (in)

## CH32M030C8U7
designator *
RISC-V MCU, 72MHz, USB, Type-C/PD, OPA, CMP, 28V gate driver; CPU内核: RISC-V3B; I/O数量: 36; 制造商: WCH(南京沁恒); 子类别: RISC-V电机驱动; 存储器类型: Flash; 存储容量: 64KB; 封装: QFN48; 工作电压: 3.3V/5-10V; 类别: 电机驱动芯片; CPU最大主频: 72MHz
footprint QFN48_5X5
pins: 0 GND (power), 1 PA12/QII1/A19 (io), 2 PA13/QII2/A18 (io), 3 PA14/Q_DET1/A9 (io), 4 PA15/Q_DET2/A10 (io), 5 PB2/SDA/CM3N3/A0 (io), 6 PB3/SCL/CM3P3/A1 (io), 7 PB4/V_DET/A17 (io), 8 PB5/XI/CM2P/A3 (io), 9 PB6/XO/CM2N/A4 (io), 10 PB8/T1C1N/LO0 (io), 11 VS0 (io), 12 VB0 (io), 13 PB9/T1C1/HO0 (out), 14 PB10/T1C2N/LO1 (io), 15 VS1 (io), 16 VB1 (io), 17 PB11/T1C2/HO1 (out), 18 PB12/T1C3N/T2C1N/LO2 (io), 19 VS2 (io), 20 VB2 (io), 21 PB13/T1C3/T2C1/HO2 (out), 22 PB14/T23C2N/LO3 (io), 23 VS3 (io), 24 VB3 (io), 25 PB15/T23C2/HO3 (out), 26 VDD8 (power), 27 PC0/T3C1 (io), 28 PC1/T3C2 (io), 29 PC2 (io), 30 PC3 (io), 31 PC4 (io), 32 PC5/HVIO (io), 33 VDD33 (power), 34 VHV (power), 35 PA0/CC1R/A13 (io), 36 PA1/CC2R/A14 (io), 37 PA2/SWCK/CC3/SCL_/A15 (io), 38 PA3/SWIO/CC4/SDA_/CM3P0/A16 (io), 39 PB0/UDP/CM3P1/A11 (io), 40 PB1/UDM/CM3P2/A12 (io), 41 PA4/ISRC1/A5 (io), 42 PA5/ISRC2/CM3N0/A6 (io), 43 PA6/ISINK1/CM3N1 (io), 44 PA7/ISINK2/CM3N2/A2 (io), 45 PA8/ISN1/CM3O/A7 (io), 46 ISP1 (in), 47 PA10/ISP2 (io), 48 PA11/ISN2/A8 (io)

## CH32M030G8R7
designator *
RISC-V MCU, 72MHz, USB, Type-C/PD, OPA, CMP, 28V gate driver; CPU内核: RISC-V3B; I/O数量: 24; 制造商: WCH(南京沁恒); 子类别: RISC-V电机驱动; 存储器类型: Flash; 存储容量: 64KB; 封装: QSOP28; 工作电压: 3.3V/5-10V; 类别: 电机驱动芯片; CPU最大主频: 72MHz
footprint QSOP28
pins: 1 PB1/UDM/T2C3/CM3P2/A12 (io), 2 PA7/ISINK2/CM3N2/A2 (io), 3 PA8/ISN1/CM3O/A7 (io), 4 ISP1 (in), 5 PA10/ISP2 (io), 6 PA11/ISN2/A8 (io), 7 PB4/V_DET/A17 (io), 8 PB5/XI/CM2P/A3/PA13/T1BK_/QII2/A18 (io), 9 PB6/XO/CM2N/A4 (io), 10 PB8/T1C1N/LO0 (io), 11 VS0 (io), 12 VB0 (io), 13 PB9/T1C1/HO0 (out), 14 PB10/T1C2N/LO1 (io), 15 VS1 (io), 16 VB1 (io), 17 PB11/T1C2/HO1 (out), 18 PB12/T1C3N/LO2 (io), 19 VS2 (io), 20 VB2 (io), 21 PB13/T1C3/HO2 (out), 22 VDD8 (power), 23 VDD33 (power), 24 VHV (power), 25 GND (power), 26 PA2/SWCK/CC3/A15 (io), 27 PA3/SWIO/CC4/T2C1/CM3P0/A16 (io), 28 PB0/UDP/T2C2/CM3P1/A11 (io)

## CH32M030K8U7
designator *
RISC-V MCU, 72MHz, USB, Type-C/PD, OPA, CMP, 28V gate driver; CPU内核: RISC-V3B; I/O数量: 17; 制造商: WCH(南京沁恒); 子类别: RISC-V电机驱动; 存储器类型: Flash; 存储容量: 64KB; 封装: QFN32; 工作电压: 3.3V/5-10V; 类别: 电机驱动芯片; CPU最大主频: 72MHz
footprint QFN32_4X4
pins: 0 GND (power), 1 PA10/ISP2 (io), 2 PA13/QII2/A18 (io), 3 PA14/Q_DET1/A9 (io), 4 PB2/SDA/CM3N3/A0 (io), 5 PB3/SCL/CM3P3/A1 (io), 6 PB4/V_DET/A17 (io), 7 PB5/XI/CM2P/A3 (io), 8 PB6/XO/CM2N/A4 (io), 9 PB8/T1C1N/LO0 (io), 10 VS0 (io), 11 PB9/T1C1/HO0 (out), 12 VB0 (io), 13 PB10/T1C2N/LO1 (io), 14 VS1/2/3 (io), 15 PB11/T1C2/HO1 (out), 16 VB1/2/3 (io), 17 PB13/HO2 (out), 18 PB15/HO3 (out), 19 VDD8 (power), 20 PC5/HVIO (io), 21 VDD33 (power), 22 VHV (power), 23 PA0/CC1R/A13 (io), 24 PA1/CC2R/A14 (io), 25 PA2/SWCK/CC3/SCL_/A15 (io), 26 PA3/SWIO/CC4/SDA_/CM3P0/A16 (io), 27 PB0/UDP/CM3P1/A11 (io), 28 PB1/UDM/CM3P2/A12 (io), 29 PA4/ISRC1/A5/PA6/ISINK1/CM3N1 (io), 30 PA7/ISINK2/CM3N2/A2 (io), 31 PA8/ISN1/CM3O/A7 (io), 32 ISP1 (in)

## CH32M103G8R6
designator U?
RISC-V MCU, 96MHz, OPA/CMP/USB/CAN, 24V P/NMOS gate driver for motor; CPU内核: RISC-V4C; I/O数量: 18; 制造商: WCH(南京沁恒); 子类别: RISC-V电机驱动; 存储器类型: Flash; 存储容量: 64KB; 封装: QSOP28; 工作电压: 3.3V/5-10V; 类别: 电机驱动芯片; CPU最大主频: 96MHz
footprint QSOP28 (Footprint not found)
pins: 1 PA2/T2C3/ADC2/C1P0 (io), 2 PA3/T2C4/ADC3 (io), 3 PA4/T2C4_/ADC4 (io), 4 PA5/T2C3_/ADC5 (io), 5 PA6/ADC6/OPN1/A-2 (io), 6 PA7/ADC7/OPP3/A+ (io), 7 PB0/ADC8 (io), 8 PB1/ADC9/OPO/PB5/C3P0 (io), 9 PB10/OPN2/C3P1/A- (io), 10 PB11/C3N (io), 11 VDD (power), 12 VSS (power), 13 VHREG (power), 14 VHV (power), 15 HO1(PA8/T1C1) (out), 16 LO1(PB13/T1C1N) (out), 17 HO2(PA9/T1C2) (out), 18 LO2(PB14/T1C2N) (out), 19 HO3(PA10/T1C3) (out), 20 LO3(PB15/T1C3N) (out), 21 PA11/UDM/PA13/SWDIO (io), 22 PA12/UDP/T2C1_/PA14/SWCLK (io), 23 PB3/C1N/C2N (io), 24 PB6/T4C1/CC1/C2P1 (io), 25 PB7/T4C2/CC2/C2N1 (io), 26 PB8/T2C2_/T4C3/C2P0 (io), 27 PA0/T2C1/ADC0/OPP4/A+2 (io), 28 PA1/T2C2/ADC1 (io)
text: BOOT0=VSS

## CH32V002A4M6
designator U?
RISC-V MCU, 48MHz, ADC/UART/I2C; CPU内核: RISC-V2C; I/O数量: 14; 制造商: WCH(南京沁恒); 子类别: RISC-V宽压; 存储器类型: Flash; 存储容量: 16KB; 封装: SOP16; 工作电压: 2-5V; 类别: 32位通用; CPU最大主频: 48MHz
footprint SOP16
pins: 1 PC1/T1BK_/T2C1_/T2C4_/RX_/SDA (io), 2 PC2/T1BK/T2C2_/SCL/AET_ (io), 3 PC3/T1C3/T1C1N_ (io), 4 PC4/T1C4/T1C1_/T1C2N_/MCO/A2 (io), 5 PC6/T1C1_/T1C3N_/SDA_ (io), 6 PC7/T1C2_/T2C2_ (io), 7 PD1/SWIO/T1C3N/SCL_/RX_/AET2 (io), 8 PD4/T1C4_/T2C1/A7 (io), 9 PD5/T2C4_/TX/RX_/A5 (io), 10 PD6/T2C3_/RX/TX_/A6 (io), 11 PD7/RST/T2C4 (io), 12 PA1/T1C2/A1 (io), 13 PA2/T1C2N/AET2_/A0 (io), 14 VSS (power), 15 VDD (power), 16 PC0/T1C3_/T2C3/TX_ (io)

## CH32V002D4U6
designator U?
RISC-V MCU, 48MHz, ADC/UART/I2C; CPU内核: RISC-V2C; I/O数量: 11; 制造商: WCH(南京沁恒); 子类别: RISC-V宽压; 存储器类型: Flash; 存储容量: 16KB; 封装: QSOP12; 工作电压: 2-5V; 类别: 32位通用; CPU最大主频: 48MHz
footprint QFN12_2X2
pins: 0 VSS (power), 1 PA1/T1C2/A1 (io), 2 PA2/T1C2N/A0 (io), 3 PD0/T1C1N/SDA_/TX_ (io), 4 VDD (power), 5 PC0/T1C3_/T2C3 (io), 6 PC3/T1C3/T1C1N_ (io), 7 PC4/T1C4/T1C1_/T1C2N_/MCO/A2 (io), 8 PC6/T1C1_/T1C3N_ (io), 9 PC7/T1C2_/T2C2_ (io), 10 PD1/SWIO/T1C3N/SCL_/RX_ (io), 11 PD4/T1C4_/T2C1/A7 (io), 12 PD7/RST/T2C4 (io)

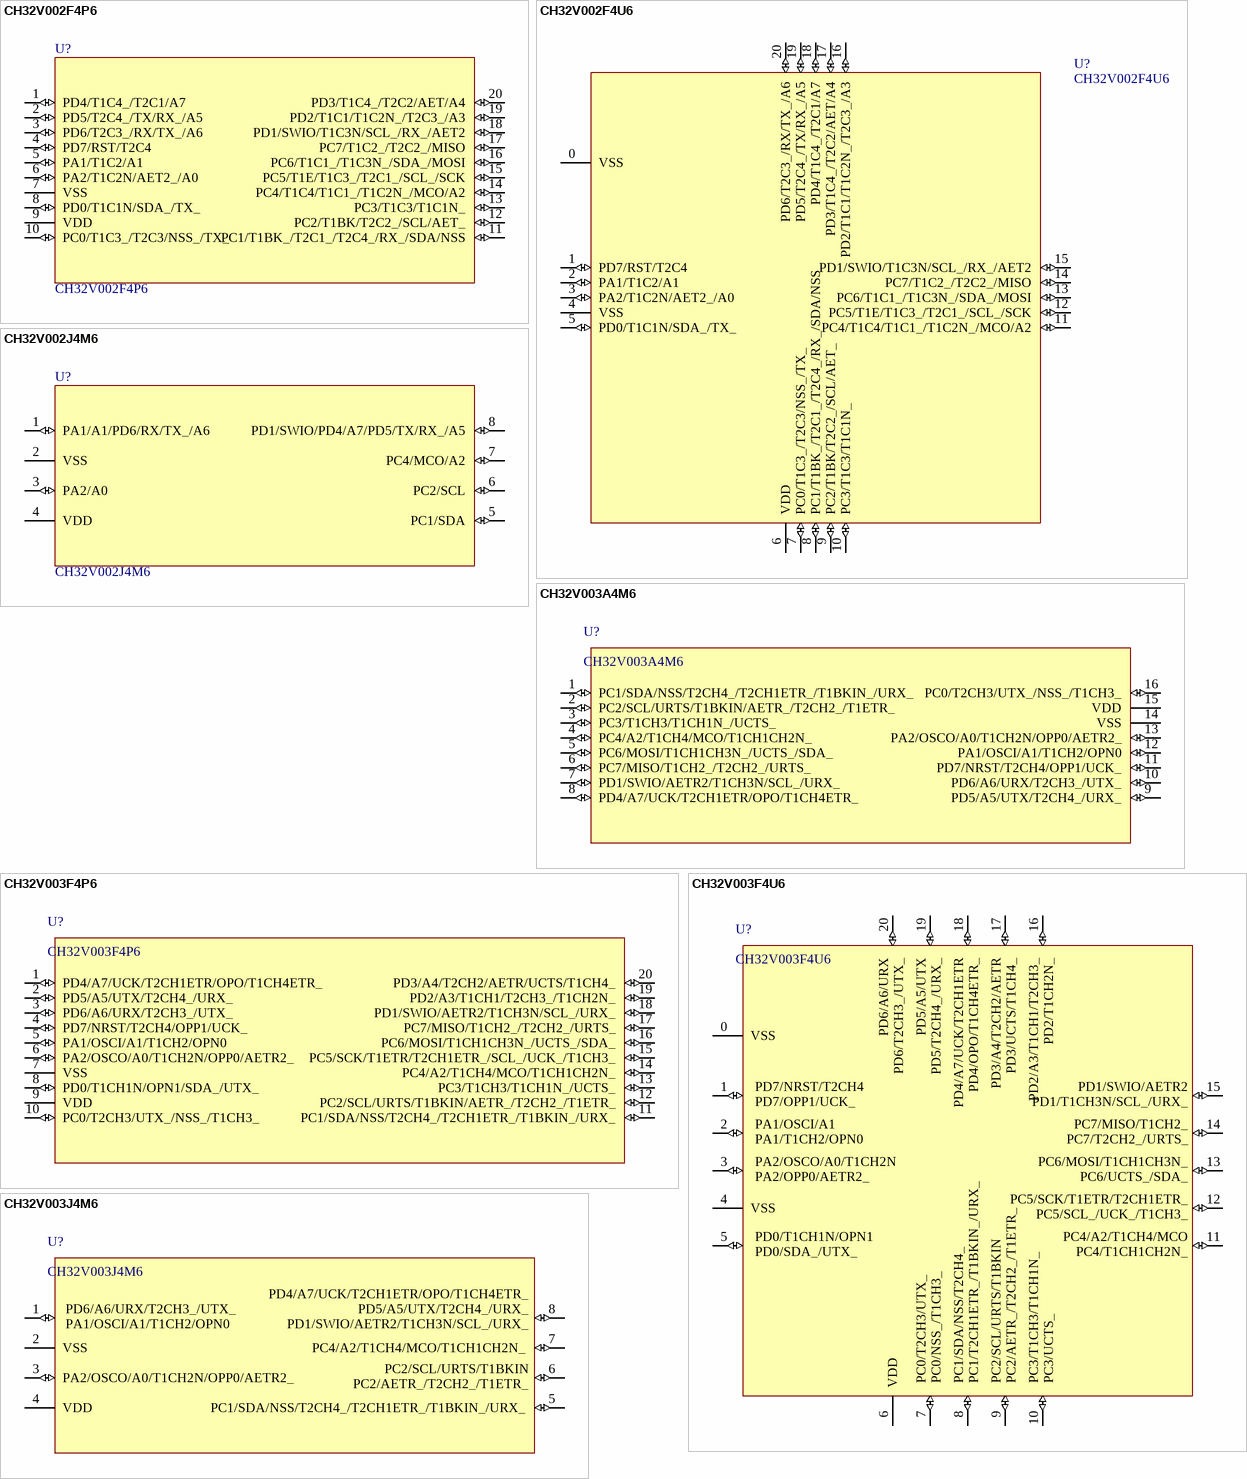
[diagram p6: symbols CH32V002F4P6 to CH32V003J4M6]

## CH32V002F4P6
designator U?
RISC-V MCU, 48MHz, ADC/UART/I2C/SPI; CPU内核: RISC-V2C; I/O数量: 18; 制造商: WCH(南京沁恒); 子类别: RISC-V宽压; 存储器类型: Flash; 存储容量: 16KB; 封装: TSSOP20; 工作电压: 2-5V; 类别: 32位通用; CPU最大主频: 48MHz
footprint TSSOP20
pins: 1 PD4/T1C4_/T2C1/A7 (io), 2 PD5/T2C4_/TX/RX_/A5 (io), 3 PD6/T2C3_/RX/TX_/A6 (io), 4 PD7/RST/T2C4 (io), 5 PA1/T1C2/A1 (io), 6 PA2/T1C2N/AET2_/A0 (io), 7 VSS (power), 8 PD0/T1C1N/SDA_/TX_ (io), 9 VDD (power), 10 PC0/T1C3_/T2C3/NSS_/TX_ (io), 11 PC1/T1BK_/T2C1_/T2C4_/RX_/SDA/NSS (io), 12 PC2/T1BK/T2C2_/SCL/AET_ (io), 13 PC3/T1C3/T1C1N_ (io), 14 PC4/T1C4/T1C1_/T1C2N_/MCO/A2 (io), 15 PC5/T1E/T1C3_/T2C1_/SCL_/SCK (io), 16 PC6/T1C1_/T1C3N_/SDA_/MOSI (io), 17 PC7/T1C2_/T2C2_/MISO (io), 18 PD1/SWIO/T1C3N/SCL_/RX_/AET2 (io), 19 PD2/T1C1/T1C2N_/T2C3_/A3 (io), 20 PD3/T1C4_/T2C2/AET/A4 (io)

## CH32V002F4U6
designator U?
RISC-V MCU, 48MHz, ADC/UART/I2C/SPI; CPU内核: RISC-V2C; I/O数量: 18; 制造商: WCH(南京沁恒); 子类别: RISC-V宽压; 存储器类型: Flash; 存储容量: 16KB; 封装: QFN20; 工作电压: 2-5V; 类别: 32位通用; CPU最大主频: 48MHz
footprint QFN20_3X3
pins: 0 VSS (power), 1 PD7/RST/T2C4 (io), 2 PA1/T1C2/A1 (io), 3 PA2/T1C2N/AET2_/A0 (io), 4 VSS (power), 5 PD0/T1C1N/SDA_/TX_ (io), 6 VDD (power), 7 PC0/T1C3_/T2C3/NSS_/TX_ (io), 8 PC1/T1BK_/T2C1_/T2C4_/RX_/SDA/NSS (io), 9 PC2/T1BK/T2C2_/SCL/AET_ (io), 10 PC3/T1C3/T1C1N_ (io), 11 PC4/T1C4/T1C1_/T1C2N_/MCO/A2 (io), 12 PC5/T1E/T1C3_/T2C1_/SCL_/SCK (io), 13 PC6/T1C1_/T1C3N_/SDA_/MOSI (io), 14 PC7/T1C2_/T2C2_/MISO (io), 15 PD1/SWIO/T1C3N/SCL_/RX_/AET2 (io), 16 PD2/T1C1/T1C2N_/T2C3_/A3 (io), 17 PD3/T1C4_/T2C2/AET/A4 (io), 18 PD4/T1C4_/T2C1/A7 (io), 19 PD5/T2C4_/TX/RX_/A5 (io), 20 PD6/T2C3_/RX/TX_/A6 (io)

## CH32V002J4M6
designator U?
RISC-V MCU, 48MHz, ADC/UART/I2C; CPU内核: RISC-V2C; I/O数量: 6; 制造商: WCH(南京沁恒); 子类别: RISC-V宽压; 存储器类型: Flash; 存储容量: 16KB; 封装: SOP8; 工作电压: 2-5V; 类别: 32位通用; CPU最大主频: 48MHz
footprint SOP8
pins: 1 PA1/A1/PD6/RX/TX_/A6 (io), 2 VSS (power), 3 PA2/A0 (io), 4 VDD (power), 5 PC1/SDA (io), 6 PC2/SCL (io), 7 PC4/MCO/A2 (io), 8 PD1/SWIO/PD4/A7/PD5/TX/RX_/A5 (io)

## CH32V003A4M6
designator U?
RISC-V MCU, 48MHz; CPU内核: RISC-V2C; I/O数量: 14; 制造商: WCH(南京沁恒); 子类别: RISC-V宽压; 存储器类型: Flash; 存储容量: 16KB; 封装: SOP16; 工作电压: 3.3V/5V; 类别: 32位通用; CPU最大主频: 48MHz
footprint SOP16
pins: 1 PC1/SDA/NSS/T2CH4_/T2CH1ETR_/T1BKIN_/URX_ (io), 2 PC2/SCL/URTS/T1BKIN/AETR_/T2CH2_/T1ETR_ (io), 3 PC3/T1CH3/T1CH1N_/UCTS_ (io), 4 PC4/A2/T1CH4/MCO/T1CH1CH2N_ (io), 5 PC6/MOSI/T1CH1CH3N_/UCTS_/SDA_ (io), 6 PC7/MISO/T1CH2_/T2CH2_/URTS_ (io), 7 PD1/SWIO/AETR2/T1CH3N/SCL_/URX_ (io), 8 PD4/A7/UCK/T2CH1ETR/OPO/T1CH4ETR_ (io), 9 PD5/A5/UTX/T2CH4_/URX_ (io), 10 PD6/A6/URX/T2CH3_/UTX_ (io), 11 PD7/NRST/T2CH4/OPP1/UCK_ (io), 12 PA1/OSCI/A1/T1CH2/OPN0 (io), 13 PA2/OSCO/A0/T1CH2N/OPP0/AETR2_ (io), 14 VSS (power), 15 VDD (power), 16 PC0/T2CH3/UTX_/NSS_/T1CH3_ (io)

## CH32V003F4P6
designator U?
RISC-V MCU, 48MHz; CPU内核: RISC-V2C; I/O数量: 18; 制造商: WCH(南京沁恒); 子类别: RISC-V宽压; 存储器类型: Flash; 存储容量: 16KB; 封装: TSSOP20; 工作电压: 3.3V/5V; 类别: 32位通用; CPU最大主频: 48MHz
footprint TSSOP20
pins: 1 PD4/A7/UCK/T2CH1ETR/OPO/T1CH4ETR_ (io), 2 PD5/A5/UTX/T2CH4_/URX_ (io), 3 PD6/A6/URX/T2CH3_/UTX_ (io), 4 PD7/NRST/T2CH4/OPP1/UCK_ (io), 5 PA1/OSCI/A1/T1CH2/OPN0 (io), 6 PA2/OSCO/A0/T1CH2N/OPP0/AETR2_ (io), 7 VSS (power), 8 PD0/T1CH1N/OPN1/SDA_/UTX_ (io), 9 VDD (power), 10 PC0/T2CH3/UTX_/NSS_/T1CH3_ (io), 11 PC1/SDA/NSS/T2CH4_/T2CH1ETR_/T1BKIN_/URX_ (io), 12 PC2/SCL/URTS/T1BKIN/AETR_/T2CH2_/T1ETR_ (io), 13 PC3/T1CH3/T1CH1N_/UCTS_ (io), 14 PC4/A2/T1CH4/MCO/T1CH1CH2N_ (io), 15 PC5/SCK/T1ETR/T2CH1ETR_/SCL_/UCK_/T1CH3_ (io), 16 PC6/MOSI/T1CH1CH3N_/UCTS_/SDA_ (io), 17 PC7/MISO/T1CH2_/T2CH2_/URTS_ (io), 18 PD1/SWIO/AETR2/T1CH3N/SCL_/URX_ (io), 19 PD2/A3/T1CH1/T2CH3_/T1CH2N_ (io), 20 PD3/A4/T2CH2/AETR/UCTS/T1CH4_ (io)

## CH32V003F4U6
designator U?
RISC-V MCU, 48MHz; CPU内核: RISC-V2C; I/O数量: 18; 制造商: WCH(南京沁恒); 子类别: RISC-V宽压; 存储器类型: Flash; 存储容量: 16KB; 封装: QFN20; 工作电压: 3.3V/5V; 类别: 32位通用; CPU最大主频: 48MHz
footprint QFN20_3X3
pins: 0 VSS (power), 1 (io), 2 (io), 3 (io), 4 VSS (power), 5 (io), 6 VDD (power), 7 (io), 8 (io), 9 (io), 10 (io), 11 (io), 12 (io), 13 (io), 14 (io), 15 (io), 16 (io), 17 (io), 18 (io), 19 (io), 20 (io)
text: PD6/A6/URX; PD6/T2CH3_/UTX_; PD5/A5/UTX; PD5/T2CH4_/URX_; PD4/A7/UCK/T2CH1ETR; PD4/OPO/T1CH4ETR_; PD3/A4/T2CH2/AETR; PD3/UCTS/T1CH4_; PD2/A3/T1CH1/T2CH3_; PD2/T1CH2N_; PD7/NRST/T2CH4; PD1/SWIO/AETR2; PD7/OPP1/UCK_; PD1/T1CH3N/SCL_/URX_; PA1/OSCI/A1; PC7/MISO/T1CH2_; PA1/T1CH2/OPN0; PC7/T2CH2_/URTS_; PA2/OSCO/A0/T1CH2N; PC6/MOSI/T1CH1CH3N_; PA2/OPP0/AETR2_; PC6/UCTS_/SDA_; PC5/SCK/T1ETR/T2CH1ETR_; PC5/SCL_/UCK_/T1CH3_; PD0/T1CH1N/OPN1; PC4/A2/T1CH4/MCO; PD0/SDA_/UTX_; PC4/T1CH1CH2N_; PC0/T2CH3/UTX_; PC0/NSS_/T1CH3_; PC1/SDA/NSS/T2CH4_; PC1/T2CH1ETR_/T1BKIN_/URX_; PC2/SCL/URTS/T1BKIN; PC2/AETR_/T2CH2_/T1ETR_; PC3/T1CH3/T1CH1N_; PC3/UCTS_

## CH32V003J4M6
designator U?
RISC-V MCU, 48MHz; CPU内核: RISC-V2C; I/O数量: 6; 制造商: WCH(南京沁恒); 子类别: RISC-V宽压; 存储器类型: Flash; 存储容量: 16KB; 封装: SOP8; 工作电压: 3.3V/5V; 类别: 32位通用; CPU最大主频: 48MHz
footprint SOP8
pins: 1 (io), 2 VSS (power), 3 PA2/OSCO/A0/T1CH2N/OPP0/AETR2_ (io), 4 VDD (power), 5 PC1/SDA/NSS/T2CH4_/T2CH1ETR_/T1BKIN_/URX_ (io), 6 (io), 7 PC4/A2/T1CH4/MCO/T1CH1CH2N_ (io), 8 (io)
text: PD4/A7/UCK/T2CH1ETR/OPO/T1CH4ETR_; PD6/A6/URX/T2CH3_/UTX_; PD5/A5/UTX/T2CH4_/URX_; PA1/OSCI/A1/T1CH2/OPN0; PD1/SWIO/AETR2/T1CH3N/SCL_/URX_; PC2/SCL/URTS/T1BKIN; PC2/AETR_/T2CH2_/T1ETR_

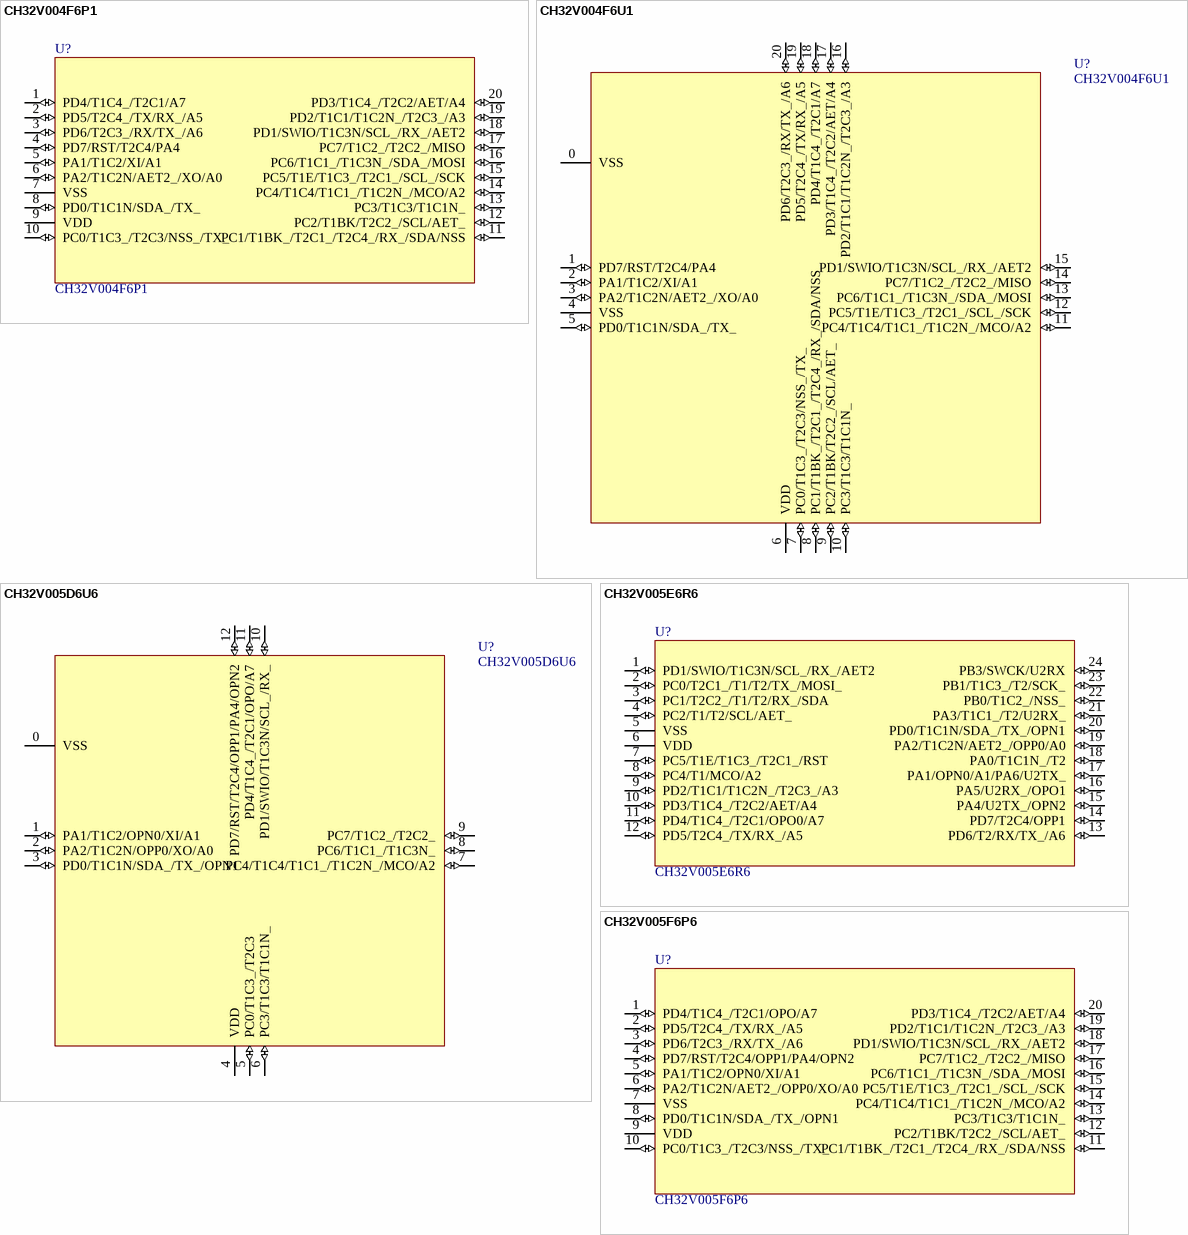
[diagram p7: symbols CH32V004F6P1 to CH32V005F6P6]

## CH32V004F6P1
designator U?
RISC-V MCU, 48MHz, ADC/UART/I2C/SPI; CPU内核: RISC-V2C; I/O数量: 18; 制造商: WCH(南京沁恒); 子类别: RISC-V宽压; 存储器类型: Flash; 存储容量: 32KB; 封装: TSSOP20; 工作电压: 2.7-5V; 类别: 32位通用; CPU最大主频: 48MHz
footprint TSSOP20
pins: 1 PD4/T1C4_/T2C1/A7 (io), 2 PD5/T2C4_/TX/RX_/A5 (io), 3 PD6/T2C3_/RX/TX_/A6 (io), 4 PD7/RST/T2C4/PA4 (io), 5 PA1/T1C2/XI/A1 (io), 6 PA2/T1C2N/AET2_/XO/A0 (io), 7 VSS (power), 8 PD0/T1C1N/SDA_/TX_ (io), 9 VDD (power), 10 PC0/T1C3_/T2C3/NSS_/TX_ (io), 11 PC1/T1BK_/T2C1_/T2C4_/RX_/SDA/NSS (io), 12 PC2/T1BK/T2C2_/SCL/AET_ (io), 13 PC3/T1C3/T1C1N_ (io), 14 PC4/T1C4/T1C1_/T1C2N_/MCO/A2 (io), 15 PC5/T1E/T1C3_/T2C1_/SCL_/SCK (io), 16 PC6/T1C1_/T1C3N_/SDA_/MOSI (io), 17 PC7/T1C2_/T2C2_/MISO (io), 18 PD1/SWIO/T1C3N/SCL_/RX_/AET2 (io), 19 PD2/T1C1/T1C2N_/T2C3_/A3 (io), 20 PD3/T1C4_/T2C2/AET/A4 (io)

## CH32V004F6U1
designator U?
RISC-V MCU, 48MHz, ADC/UART/I2C/SPI; CPU内核: RISC-V2C; I/O数量: 18; 制造商: WCH(南京沁恒); 子类别: RISC-V宽压; 存储器类型: Flash; 存储容量: 32KB; 封装: QFN20; 工作电压: 2.7-5V; 类别: 32位通用; CPU最大主频: 48MHz
footprint QFN20_3X3
pins: 0 VSS (power), 1 PD7/RST/T2C4/PA4 (io), 2 PA1/T1C2/XI/A1 (io), 3 PA2/T1C2N/AET2_/XO/A0 (io), 4 VSS (power), 5 PD0/T1C1N/SDA_/TX_ (io), 6 VDD (power), 7 PC0/T1C3_/T2C3/NSS_/TX_ (io), 8 PC1/T1BK_/T2C1_/T2C4_/RX_/SDA/NSS (io), 9 PC2/T1BK/T2C2_/SCL/AET_ (io), 10 PC3/T1C3/T1C1N_ (io), 11 PC4/T1C4/T1C1_/T1C2N_/MCO/A2 (io), 12 PC5/T1E/T1C3_/T2C1_/SCL_/SCK (io), 13 PC6/T1C1_/T1C3N_/SDA_/MOSI (io), 14 PC7/T1C2_/T2C2_/MISO (io), 15 PD1/SWIO/T1C3N/SCL_/RX_/AET2 (io), 16 PD2/T1C1/T1C2N_/T2C3_/A3 (io), 17 PD3/T1C4_/T2C2/AET/A4 (io), 18 PD4/T1C4_/T2C1/A7 (io), 19 PD5/T2C4_/TX/RX_/A5 (io), 20 PD6/T2C3_/RX/TX_/A6 (io)

## CH32V005D6U6
designator U?
RISC-V MCU, 48MHz, ADC/OPA/2*UART/I2C; CPU内核: RISC-V2C; I/O数量: 11; 制造商: WCH(南京沁恒); 子类别: RISC-V宽压; 存储器类型: FLASH; 存储容量: 32KB; 封装: QFN12; 工作电压: 2-5V; 类别: 32位通用; CPU最大主频: 48MHz
footprint QFN12_2X2
pins: 0 VSS (power), 1 PA1/T1C2/OPN0/XI/A1 (io), 2 PA2/T1C2N/OPP0/XO/A0 (io), 3 PD0/T1C1N/SDA_/TX_/OPN1 (io), 4 VDD (power), 5 PC0/T1C3_/T2C3 (io), 6 PC3/T1C3/T1C1N_ (io), 7 PC4/T1C4/T1C1_/T1C2N_/MCO/A2 (io), 8 PC6/T1C1_/T1C3N_ (io), 9 PC7/T1C2_/T2C2_ (io), 10 PD1/SWIO/T1C3N/SCL_/RX_ (io), 11 PD4/T1C4_/T2C1/OPO/A7 (io), 12 PD7/RST/T2C4/OPP1/PA4/OPN2 (io)

## CH32V005E6R6
designator U?
RISC-V MCU, 48MHz, ADC/OPA/CMP/2*UART/I2C/SPI; CPU内核: RISC-V2C; I/O数量: 22; 制造商: WCH(南京沁恒); 子类别: RISC-V宽压; 存储器类型: FLASH; 存储容量: 32KB; 封装: QSOP24; 工作电压: 2-5V; 类别: 32位通用; CPU最大主频: 48MHz
footprint QSOP24
pins: 1 PD1/SWIO/T1C3N/SCL_/RX_/AET2 (io), 2 PC0/T2C1_/T1/T2/TX_/MOSI_ (io), 3 PC1/T2C2_/T1/T2/RX_/SDA (io), 4 PC2/T1/T2/SCL/AET_ (io), 5 VSS (power), 6 VDD (power), 7 PC5/T1E/T1C3_/T2C1_/RST (io), 8 PC4/T1/MCO/A2 (io), 9 PD2/T1C1/T1C2N_/T2C3_/A3 (io), 10 PD3/T1C4_/T2C2/AET/A4 (io), 11 PD4/T1C4_/T2C1/OPO0/A7 (io), 12 PD5/T2C4_/TX/RX_/A5 (io), 13 PD6/T2/RX/TX_/A6 (io), 14 PD7/T2C4/OPP1 (io), 15 PA4/U2TX_/OPN2 (io), 16 PA5/U2RX_/OPO1 (io), 17 PA1/OPN0/A1/PA6/U2TX_ (io), 18 PA0/T1C1N_/T2 (io), 19 PA2/T1C2N/AET2_/OPP0/A0 (io), 20 PD0/T1C1N/SDA_/TX_/OPN1 (io), 21 PA3/T1C1_/T2/U2RX_ (io), 22 PB0/T1C2_/NSS_ (io), 23 PB1/T1C3_/T2/SCK_ (io), 24 PB3/SWCK/U2RX (io)

## CH32V005F6P6
designator U?
RISC-V MCU, 48MHz, ADC/OPA/2*UART/I2C/SPI; CPU内核: RISC-V2C; I/O数量: 11; 制造商: WCH(南京沁恒); 子类别: RISC-V宽压; 存储器类型: FLASH; 存储容量: 32KB; 封装: TSSOP20; 工作电压: 2-5V; 类别: 32位通用; CPU最大主频: 48MHz
footprint TSSOP20
pins: 1 PD4/T1C4_/T2C1/OPO/A7 (io), 2 PD5/T2C4_/TX/RX_/A5 (io), 3 PD6/T2C3_/RX/TX_/A6 (io), 4 PD7/RST/T2C4/OPP1/PA4/OPN2 (io), 5 PA1/T1C2/OPN0/XI/A1 (io), 6 PA2/T1C2N/AET2_/OPP0/XO/A0 (io), 7 VSS (power), 8 PD0/T1C1N/SDA_/TX_/OPN1 (io), 9 VDD (power), 10 PC0/T1C3_/T2C3/NSS_/TX_ (io), 11 PC1/T1BK_/T2C1_/T2C4_/RX_/SDA/NSS (io), 12 PC2/T1BK/T2C2_/SCL/AET_ (io), 13 PC3/T1C3/T1C1N_ (io), 14 PC4/T1C4/T1C1_/T1C2N_/MCO/A2 (io), 15 PC5/T1E/T1C3_/T2C1_/SCL_/SCK (io), 16 PC6/T1C1_/T1C3N_/SDA_/MOSI (io), 17 PC7/T1C2_/T2C2_/MISO (io), 18 PD1/SWIO/T1C3N/SCL_/RX_/AET2 (io), 19 PD2/T1C1/T1C2N_/T2C3_/A3 (io), 20 PD3/T1C4_/T2C2/AET/A4 (io)

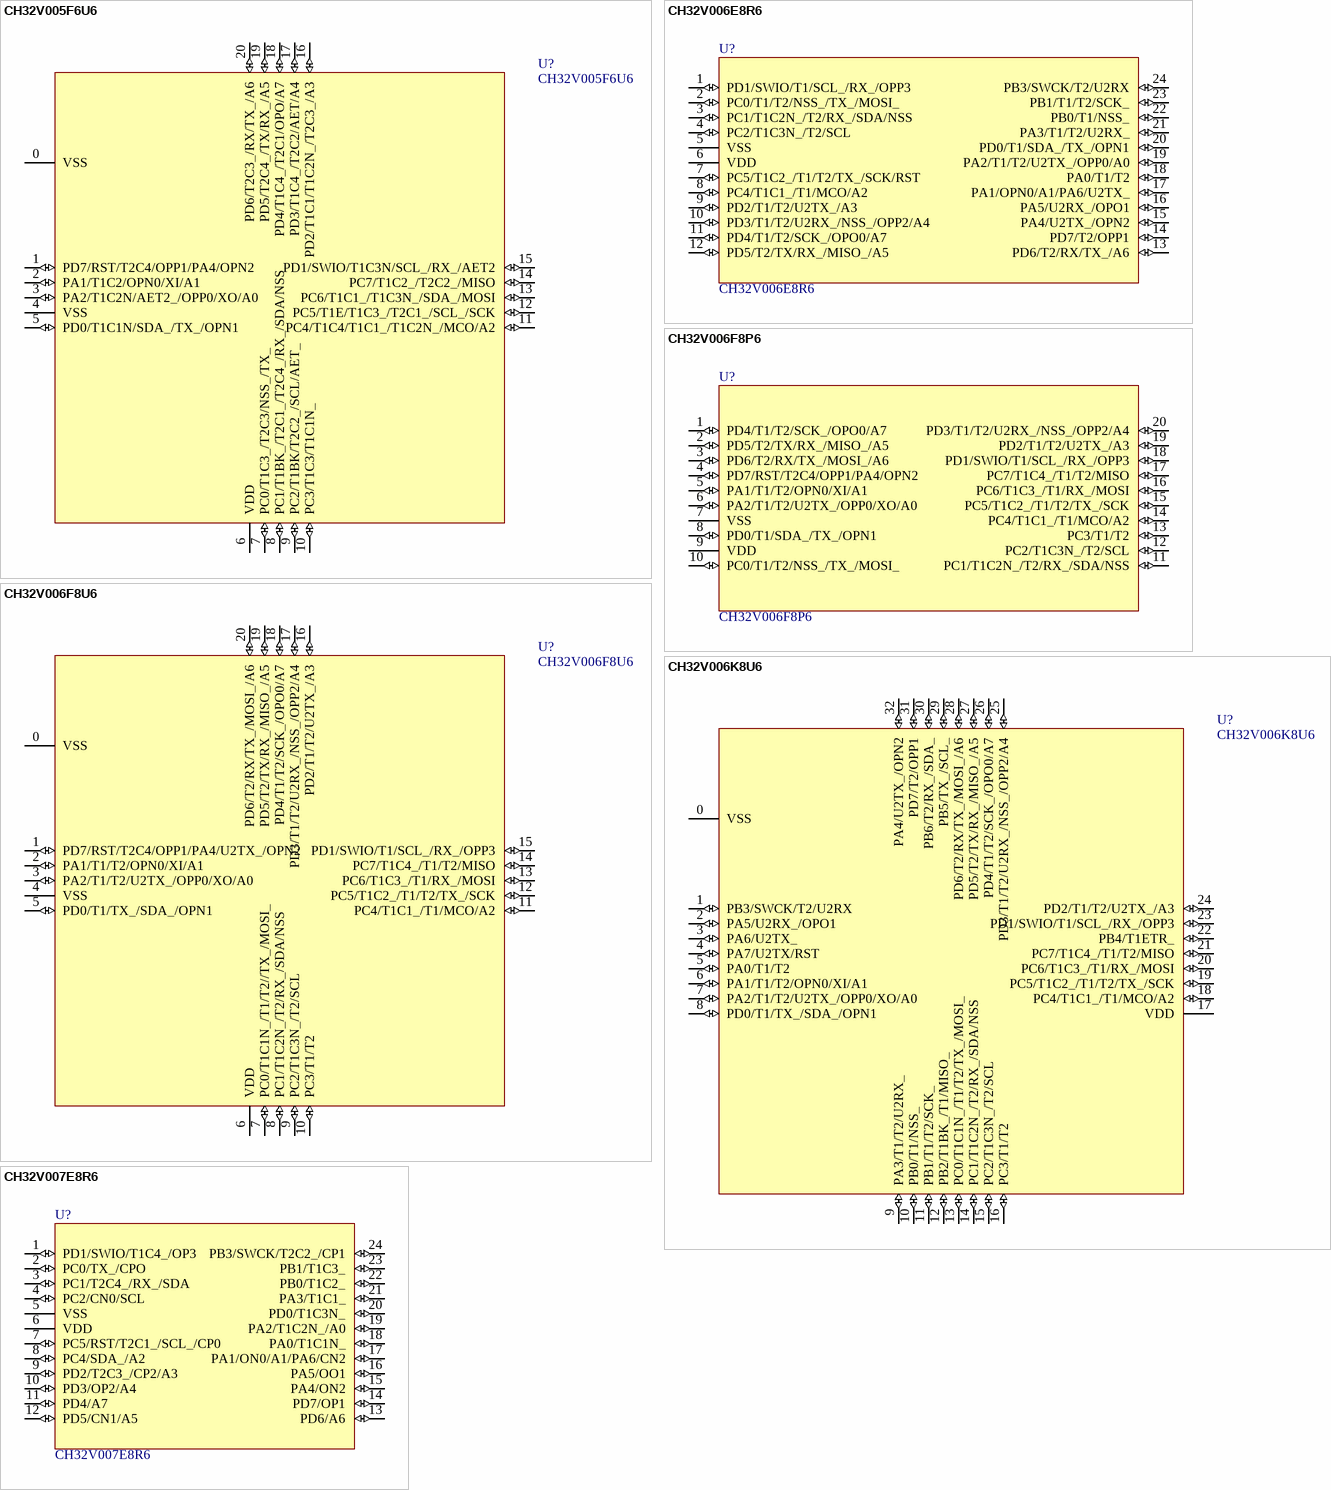
[diagram p8: symbols CH32V005F6U6 to CH32V007E8R6]

## CH32V005F6U6
designator U?
RISC-V MCU, 48MHz, ADC/OPA/2*UART/I2C/SPI; CPU内核: RISC-V2C; I/O数量: 18; 制造商: WCH(南京沁恒); 子类别: RISC-V宽压; 存储器类型: FLASH; 存储容量: 32KB; 封装: QFN20; 工作电压: 2-5V; 类别: 32位通用; CPU最大主频: 48MHz
footprint QFN20_3X3
pins: 0 VSS (power), 1 PD7/RST/T2C4/OPP1/PA4/OPN2 (io), 2 PA1/T1C2/OPN0/XI/A1 (io), 3 PA2/T1C2N/AET2_/OPP0/XO/A0 (io), 4 VSS (power), 5 PD0/T1C1N/SDA_/TX_/OPN1 (io), 6 VDD (power), 7 PC0/T1C3_/T2C3/NSS_/TX_ (io), 8 PC1/T1BK_/T2C1_/T2C4_/RX_/SDA/NSS (io), 9 PC2/T1BK/T2C2_/SCL/AET_ (io), 10 PC3/T1C3/T1C1N_ (io), 11 PC4/T1C4/T1C1_/T1C2N_/MCO/A2 (io), 12 PC5/T1E/T1C3_/T2C1_/SCL_/SCK (io), 13 PC6/T1C1_/T1C3N_/SDA_/MOSI (io), 14 PC7/T1C2_/T2C2_/MISO (io), 15 PD1/SWIO/T1C3N/SCL_/RX_/AET2 (io), 16 PD2/T1C1/T1C2N_/T2C3_/A3 (io), 17 PD3/T1C4_/T2C2/AET/A4 (io), 18 PD4/T1C4_/T2C1/OPO/A7 (io), 19 PD5/T2C4_/TX/RX_/A5 (io), 20 PD6/T2C3_/RX/TX_/A6 (io)

## CH32V006E8R6
designator U?
RISC-V MCU, 48MHz, ADC/OPA/CMP/2*UART/I2C/SPI; CPU内核: RISC-V2C; I/O数量: 22; 制造商: WCH(南京沁恒); 子类别: RISC-V宽压; 存储器类型: FLASH; 存储容量: 62KB; 封装: QSOP24; 工作电压: 2-5V; 类别: 32位通用; CPU最大主频: 48MHz
footprint QSOP24
pins: 1 PD1/SWIO/T1/SCL_/RX_/OPP3 (io), 2 PC0/T1/T2/NSS_/TX_/MOSI_ (io), 3 PC1/T1C2N_/T2/RX_/SDA/NSS (io), 4 PC2/T1C3N_/T2/SCL (io), 5 VSS (power), 6 VDD (power), 7 PC5/T1C2_/T1/T2/TX_/SCK/RST (io), 8 PC4/T1C1_/T1/MCO/A2 (io), 9 PD2/T1/T2/U2TX_/A3 (io), 10 PD3/T1/T2/U2RX_/NSS_/OPP2/A4 (io), 11 PD4/T1/T2/SCK_/OPO0/A7 (io), 12 PD5/T2/TX/RX_/MISO_/A5 (io), 13 PD6/T2/RX/TX_/A6 (io), 14 PD7/T2/OPP1 (io), 15 PA4/U2TX_/OPN2 (io), 16 PA5/U2RX_/OPO1 (io), 17 PA1/OPN0/A1/PA6/U2TX_ (io), 18 PA0/T1/T2 (io), 19 PA2/T1/T2/U2TX_/OPP0/A0 (io), 20 PD0/T1/SDA_/TX_/OPN1 (io), 21 PA3/T1/T2/U2RX_ (io), 22 PB0/T1/NSS_ (io), 23 PB1/T1/T2/SCK_ (io), 24 PB3/SWCK/T2/U2RX (io)